# Altium schematic symbol library MCU_Module.SchLib: 64 symbols (part 1 of 2)
Pins are listed as number, name and electrical type; pins without a type are passive.

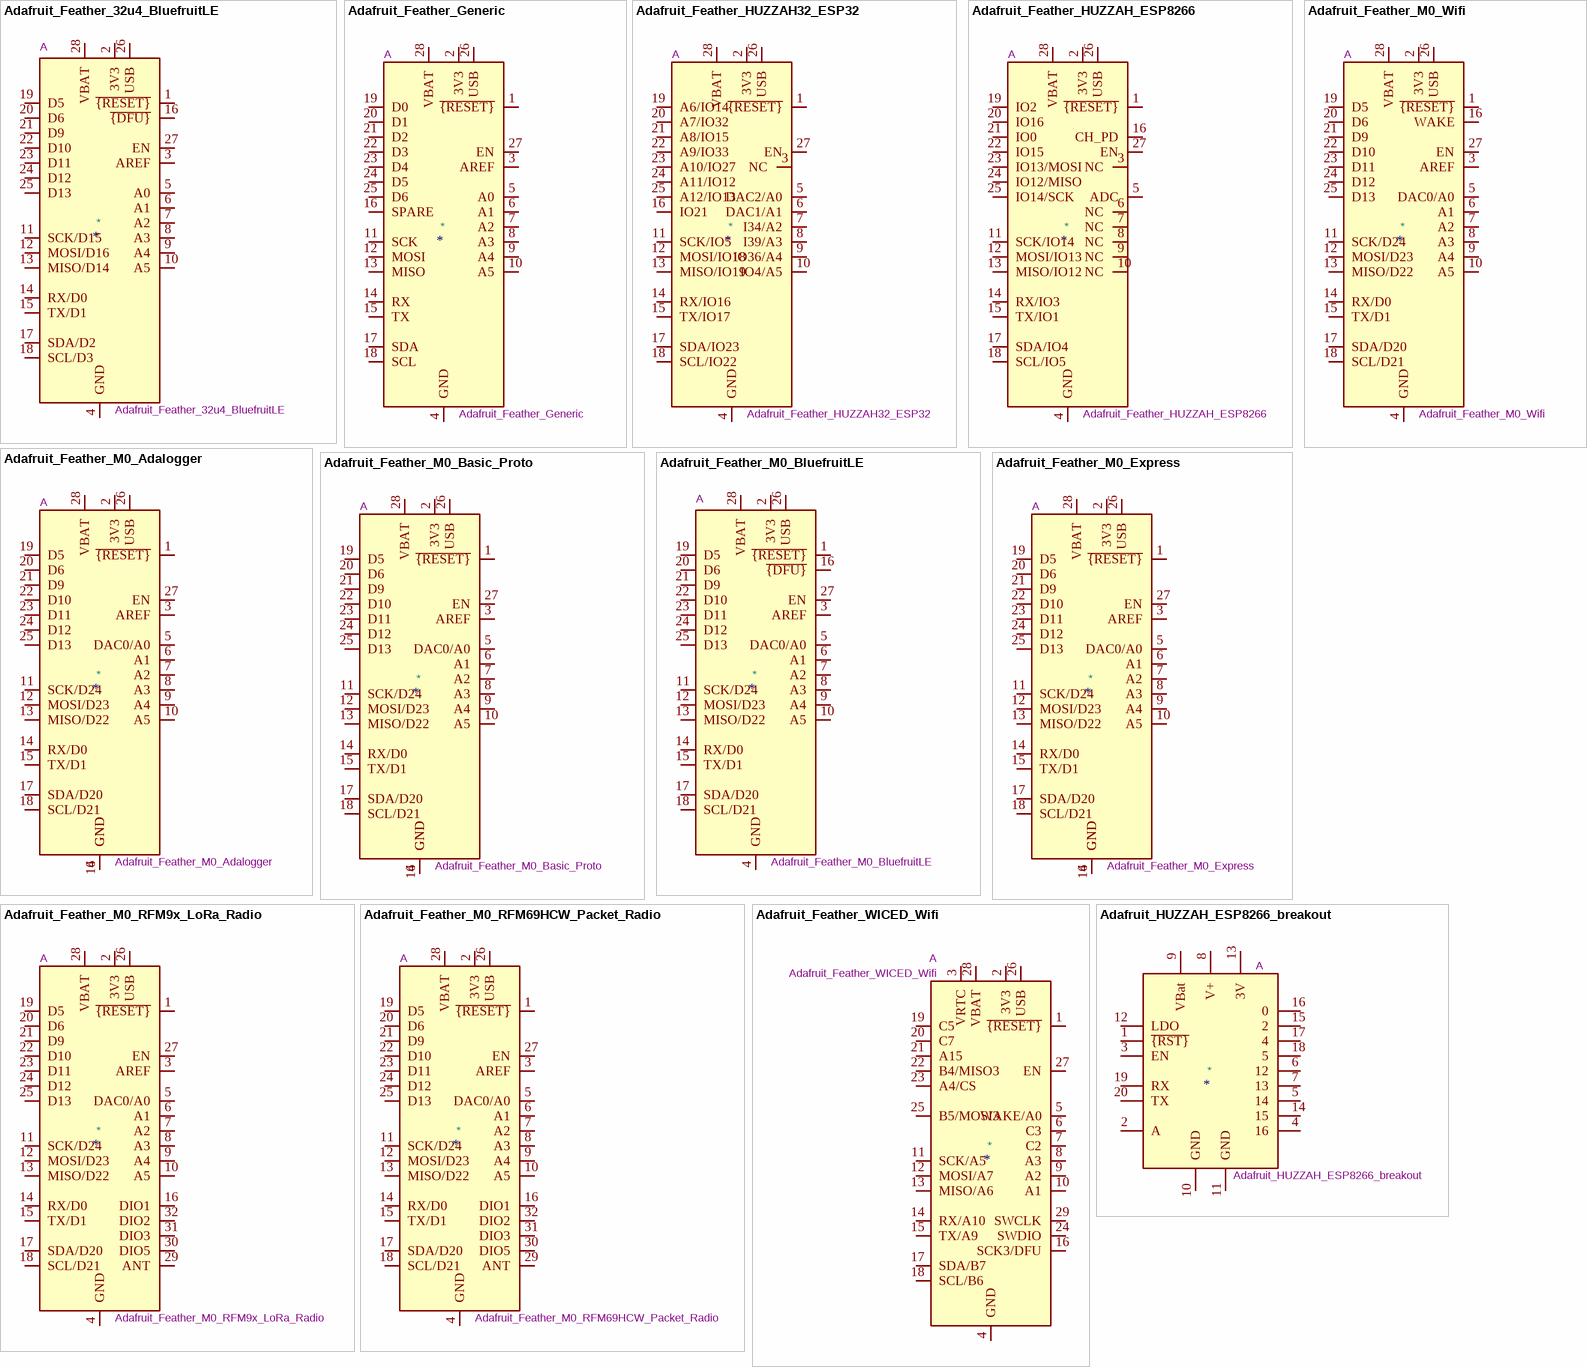
[diagram p0: symbols Adafruit_Feather_32u4_BluefruitLE to Adafruit_HUZZAH_ESP8266_breakout]

## Adafruit_Feather_32u4_BluefruitLE
designator *  value Adafruit_Feather_32u4_BluefruitLE  Reference: A
Microcontroller module with ATmega32u4 MCU and bluetooth; ki_keywords: Adafruit feather microcontroller module USB AVR ATmega32U4  Bluetooth BLE; ki_fp_filters: Adafruit*Feather*; Footprint: Module:Adafruit_Feather; Datasheet: https://cdn-learn.adafruit.com/downloads/pdf/adafruit-feather-32u4-bluefruit-le.pdf; Description_: Microcontroller module with ATmega32u4 MCU and bluetooth
pins: 1 ~{{RESET}}, 2 3V3, 3 AREF, 4 GND, 5 A0, 6 A1, 7 A2, 8 A3, 9 A4, 10 A5, 11 SCK/D15, 12 MOSI/D16, 13 MISO/D14, 14 RX/D0, 15 TX/D1, 16 ~{{DFU}}, 17 SDA/D2, 18 SCL/D3, 19 D5, 20 D6, 21 D9, 22 D10, 23 D11, 24 D12, 25 D13, 26 USB, 27 EN, 28 VBAT

## Adafruit_Feather_Generic
designator *  value Adafruit_Feather_Generic  Reference: A
Microcontroller module in various flavor, generic symbol; ki_keywords: Adafruit feather microcontroller module; ki_fp_filters: Adafruit*Feather*; Footprint: Module:Adafruit_Feather; Datasheet: https://cdn-learn.adafruit.com/downloads/pdf/adafruit-feather.pdf; Description_: Microcontroller module in various flavor, generic symbol
pins: 1 ~{{RESET}}, 2 3V3, 3 AREF, 4 GND, 5 A0, 6 A1, 7 A2, 8 A3, 9 A4, 10 A5, 11 SCK, 12 MOSI, 13 MISO, 14 RX, 15 TX, 16 SPARE, 17 SDA, 18 SCL, 19 D0, 20 D1, 21 D2, 22 D3, 23 D4, 24 D5, 25 D6, 26 USB, 27 EN, 28 VBAT

## Adafruit_Feather_HUZZAH32_ESP32
designator *  value Adafruit_Feather_HUZZAH32_ESP32  Reference: A
Microcontroller module with ESP32 MCU; ki_keywords: Adafruit feather microcontroller module USB; ki_fp_filters: Adafruit*Feather*; Footprint: Module:Adafruit_Feather; Datasheet: https://cdn-learn.adafruit.com/downloads/pdf/adafruit-huzzah32-esp32-feather.pdf; Description_: Microcontroller module with ESP32 MCU
pins: 1 ~{{RESET}}, 2 3V3, 3 NC, 4 GND, 5 DAC2/A0, 6 DAC1/A1, 7 I34/A2, 8 I39/A3, 9 IO36/A4, 10 IO4/A5, 11 SCK/IO5, 12 MOSI/IO18, 13 MISO/IO19, 14 RX/IO16, 15 TX/IO17, 16 IO21, 17 SDA/IO23, 18 SCL/IO22, 19 A6/IO14, 20 A7/IO32, 21 A8/IO15, 22 A9/IO33, 23 A10/IO27, 24 A11/IO12, 25 A12/IO13, 26 USB, 27 EN, 28 VBAT

## Adafruit_Feather_HUZZAH_ESP8266
designator *  value Adafruit_Feather_HUZZAH_ESP8266  Reference: A
Microcontroller module with ESP8266 MCU; ki_keywords: Adafruit feather microcontroller module USB; ki_fp_filters: Adafruit*Feather*; Footprint: Module:Adafruit_Feather; Datasheet: https://cdn-learn.adafruit.com/downloads/pdf/adafruit-feather-huzzah-esp8266.pdf; Description_: Microcontroller module with ESP8266 MCU
pins: 1 ~{{RESET}}, 2 3V3, 3 NC, 4 GND, 5 ADC, 6 NC, 7 NC, 8 NC, 9 NC, 10 NC, 11 SCK/IO14, 12 MOSI/IO13, 13 MISO/IO12, 14 RX/IO3, 15 TX/IO1, 16 CH_PD, 17 SDA/IO4, 18 SCL/IO5, 19 IO2, 20 IO16, 21 IO0, 22 IO15, 23 IO13/MOSI, 24 IO12/MISO, 25 IO14/SCK, 26 USB, 27 EN, 28 VBAT

## Adafruit_Feather_M0_Adalogger
designator *  value Adafruit_Feather_M0_Adalogger  Reference: A
Microcontroller module with SAMD21 Cortex-M0 MCU and SD card reader; ki_keywords: Adafruit feather microcontroller module USB SD; ki_fp_filters: Adafruit*Feather*; Footprint: Module:Adafruit_Feather; Datasheet: https://cdn-learn.adafruit.com/downloads/pdf/adafruit-feather-m0-adalogger.pdf; Description_: Microcontroller module with SAMD21 Cortex-M0 MCU and SD card reader
pins: 1 ~{{RESET}}, 2 3V3, 3 AREF, 4 GND, 5 DAC0/A0, 6 A1, 7 A2, 8 A3, 9 A4, 10 A5, 11 SCK/D24, 12 MOSI/D23, 13 MISO/D22, 14 RX/D0, 15 TX/D1, 16 GND, 17 SDA/D20, 18 SCL/D21, 19 D5, 20 D6, 21 D9, 22 D10, 23 D11, 24 D12, 25 D13, 26 USB, 27 EN, 28 VBAT

## Adafruit_Feather_M0_Basic_Proto
designator *  value Adafruit_Feather_M0_Basic_Proto  Reference: A
Microcontroller module with SAMD21 Cortex-M0 MCU; ki_keywords: Adafruit feather microcontroller module USB M0 SAMD21; ki_fp_filters: Adafruit*Feather*; Footprint: Module:Adafruit_Feather; Datasheet: https://cdn-learn.adafruit.com/downloads/pdf/adafruit-feather-m0-basic-proto.pdf; Description_: Microcontroller module with SAMD21 Cortex-M0 MCU
pins: 1 ~{{RESET}}, 2 3V3, 3 AREF, 4 GND, 5 DAC0/A0, 6 A1, 7 A2, 8 A3, 9 A4, 10 A5, 11 SCK/D24, 12 MOSI/D23, 13 MISO/D22, 14 RX/D0, 15 TX/D1, 16 GND, 17 SDA/D20, 18 SCL/D21, 19 D5, 20 D6, 21 D9, 22 D10, 23 D11, 24 D12, 25 D13, 26 USB, 27 EN, 28 VBAT

## Adafruit_Feather_M0_BluefruitLE
designator *  value Adafruit_Feather_M0_BluefruitLE  Reference: A
Microcontroller module with SAMD21 Cortex-M0 MCU and bluetooth; ki_keywords: Adafruit feather microcontroller module USB M0 SAMD21 Bluetooth BLE; ki_fp_filters: Adafruit*Feather*; Footprint: Module:Adafruit_Feather; Datasheet: https://cdn-learn.adafruit.com/downloads/pdf/adafruit-feather-m0-bluefruit-le.pdf; Description_: Microcontroller module with SAMD21 Cortex-M0 MCU and bluetooth
pins: 1 ~{{RESET}}, 2 3V3, 3 AREF, 4 GND, 5 DAC0/A0, 6 A1, 7 A2, 8 A3, 9 A4, 10 A5, 11 SCK/D24, 12 MOSI/D23, 13 MISO/D22, 14 RX/D0, 15 TX/D1, 16 ~{{DFU}}, 17 SDA/D20, 18 SCL/D21, 19 D5, 20 D6, 21 D9, 22 D10, 23 D11, 24 D12, 25 D13, 26 USB, 27 EN, 28 VBAT

## Adafruit_Feather_M0_Express
designator *  value Adafruit_Feather_M0_Express  Reference: A
Microcontroller module with SAMD21 Cortex-M0 MCU and SPI Flash; ki_keywords: Adafruit feather microcontroller module USB SPI Flash CircuitPython; ki_fp_filters: Adafruit*Feather*; Footprint: Module:Adafruit_Feather; Datasheet: https://cdn-learn.adafruit.com/downloads/pdf/adafruit-feather-m0-express-designed-for-circuit-python-circuitpython.pdf; Description_: Microcontroller module with SAMD21 Cortex-M0 MCU and SPI Flash
pins: 1 ~{{RESET}}, 2 3V3, 3 AREF, 4 GND, 5 DAC0/A0, 6 A1, 7 A2, 8 A3, 9 A4, 10 A5, 11 SCK/D24, 12 MOSI/D23, 13 MISO/D22, 14 RX/D0, 15 TX/D1, 16 GND, 17 SDA/D20, 18 SCL/D21, 19 D5, 20 D6, 21 D9, 22 D10, 23 D11, 24 D12, 25 D13, 26 USB, 27 EN, 28 VBAT

## Adafruit_Feather_M0_RFM9x_LoRa_Radio
designator *  value Adafruit_Feather_M0_RFM9x_LoRa_Radio  Reference: A
Microcontroller module with SAMD21 Cortex-M0 MCU and RFM9x Radio; ki_keywords: Adafruit feather microcontroller module USB M0 SAMD21 LoRa Radio; ki_fp_filters: Adafruit*Feather*; Footprint: Module:Adafruit_Feather_M0_RFM; Datasheet: https://cdn-learn.adafruit.com/downloads/pdf/adafruit-feather-m0-radio-with-lora-radio-module.pdf; Description_: Microcontroller module with SAMD21 Cortex-M0 MCU and RFM9x Radio
pins: 1 ~{{RESET}}, 2 3V3, 3 AREF, 4 GND, 5 DAC0/A0, 6 A1, 7 A2, 8 A3, 9 A4, 10 A5, 11 SCK/D24, 12 MOSI/D23, 13 MISO/D22, 14 RX/D0, 15 TX/D1, 16 DIO1, 17 SDA/D20, 18 SCL/D21, 19 D5, 20 D6, 21 D9, 22 D10, 23 D11, 24 D12, 25 D13, 26 USB, 27 EN, 28 VBAT, 29 ANT, 30 DIO5, 31 DIO3, 32 DIO2

## Adafruit_Feather_M0_RFM69HCW_Packet_Radio
designator *  value Adafruit_Feather_M0_RFM69HCW_Packet_Radio  Reference: A
Microcontroller module with SAMD21 Cortex-M0 MCU and RFM69HCW Radio; ki_keywords: Adafruit feather microcontroller module USB M0 SAMD21 Radio; ki_fp_filters: Adafruit*Feather*; Footprint: Module:Adafruit_Feather_M0_RFM; Datasheet: https://cdn-learn.adafruit.com/downloads/pdf/adafruit-feather-m0-radio-with-rfm69-packet-radio.pdf; Description_: Microcontroller module with SAMD21 Cortex-M0 MCU and RFM69HCW Radio
pins: 1 ~{{RESET}}, 2 3V3, 3 AREF, 4 GND, 5 DAC0/A0, 6 A1, 7 A2, 8 A3, 9 A4, 10 A5, 11 SCK/D24, 12 MOSI/D23, 13 MISO/D22, 14 RX/D0, 15 TX/D1, 16 DIO1, 17 SDA/D20, 18 SCL/D21, 19 D5, 20 D6, 21 D9, 22 D10, 23 D11, 24 D12, 25 D13, 26 USB, 27 EN, 28 VBAT, 29 ANT, 30 DIO5, 31 DIO3, 32 DIO2

## Adafruit_Feather_M0_Wifi
designator *  value Adafruit_Feather_M0_Wifi  Reference: A
Microcontroller module with SAMD21 Cortex-M0 MCU and ATWINC1500 Wifi; ki_keywords: Adafruit feather microcontroller module USB M0 SAMD21 Wifi ATWINC1500; ki_fp_filters: Adafruit*Feather*; Footprint: Module:Adafruit_Feather_M0_Wifi; Datasheet: https://cdn-learn.adafruit.com/downloads/pdf/adafruit-feather-m0-wifi-atwinc1500.pdf; Description_: Microcontroller module with SAMD21 Cortex-M0 MCU and ATWINC1500 Wifi
pins: 1 ~{{RESET}}, 2 3V3, 3 AREF, 4 GND, 5 DAC0/A0, 6 A1, 7 A2, 8 A3, 9 A4, 10 A5, 11 SCK/D24, 12 MOSI/D23, 13 MISO/D22, 14 RX/D0, 15 TX/D1, 16 WAKE, 17 SDA/D20, 18 SCL/D21, 19 D5, 20 D6, 21 D9, 22 D10, 23 D11, 24 D12, 25 D13, 26 USB, 27 EN, 28 VBAT

## Adafruit_Feather_WICED_Wifi
designator *  value Adafruit_Feather_WICED_Wifi  Reference: A
Microcontroller module with STM32F205 Cortex-M3 MCU and BCM43362 Wifi; ki_keywords: Adafruit feather microcontroller module USB M3 STM32F205 Wifi; ki_fp_filters: Adafruit*Feather*; Footprint: Module:Adafruit_Feather_WICED; Datasheet: https://cdn-learn.adafruit.com/downloads/pdf/introducing-the-adafruit-wiced-feather-wifi.pdf; Description_: Microcontroller module with STM32F205 Cortex-M3 MCU and BCM43362 Wifi
pins: 1 ~{{RESET}}, 2 3V3, 3 VRTC, 4 GND, 5 WAKE/A0, 6 C3, 7 C2, 8 A3, 9 A2, 10 A1, 11 SCK/A5, 12 MOSI/A7, 13 MISO/A6, 14 RX/A10, 15 TX/A9, 16 SCK3/DFU, 17 SDA/B7, 18 SCL/B6, 19 C5, 20 C7, 21 A15, 22 B4/MISO3, 23 A4/CS, 24 SWDIO, 25 B5/MOSI3, 26 USB, 27 EN, 28 VBAT, 29 SWCLK

## Adafruit_HUZZAH_ESP8266_breakout
designator *  value Adafruit_HUZZAH_ESP8266_breakout  Reference: A
32-bit microcontroller module with WiFi; ki_keywords: ESP8266 WiFi microcontroller; ki_fp_filters: Adafruit*HUZZAH*ESP8266*breakout* Adafruit*HUZZAH*ESP8266*breakout*WithMountingHoles*; Datasheet: https://www.adafruit.com/product/2471; Description_: 32-bit microcontroller module with WiFi
pins: 1 ~{{RST}}, 2 A, 3 EN, 4 16, 5 14, 6 12, 7 13, 8 V+, 9 VBat, 10 GND, 11 GND, 12 LDO, 13 3V, 14 15, 15 2, 16 0, 17 4, 18 5, 19 RX, 20 TX

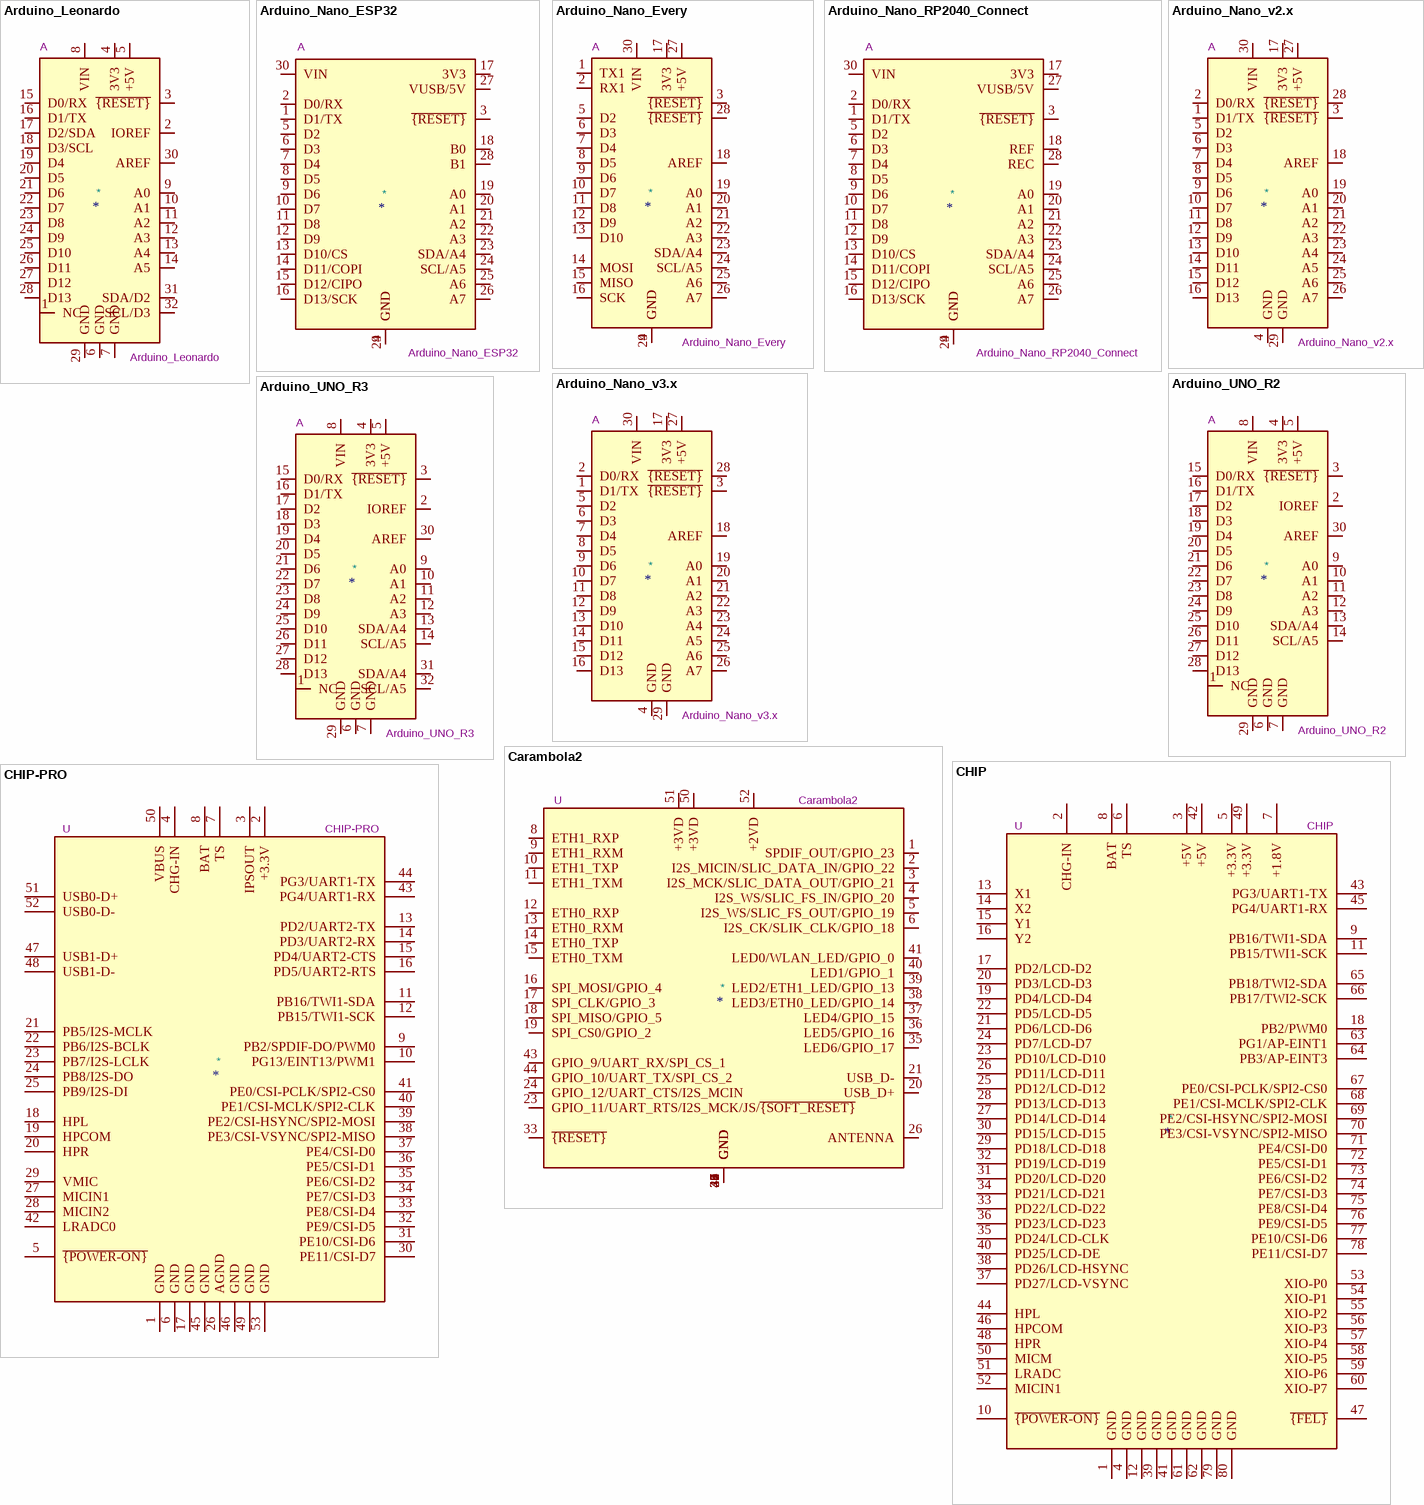
[diagram p1: symbols Arduino_Leonardo to CHIP-PRO]

## Arduino_Leonardo
designator *  value Arduino_Leonardo  Reference: A
Arduino LEONARDO Microcontroller Module; ki_keywords: Arduino LEONARDO Microcontroller Module Atmel AVR USB; ki_fp_filters: Arduino*UNO*R3*; Footprint: Module:Arduino_UNO_R3; Datasheet: https://www.arduino.cc/en/Main/ArduinoBoardLeonardo; Description_: Arduino LEONARDO Microcontroller Module
pins: 1 NC, 2 IOREF, 3 ~{{RESET}}, 4 3V3, 5 +5V, 6 GND, 7 GND, 8 VIN, 9 A0, 10 A1, 11 A2, 12 A3, 13 A4, 14 A5, 15 D0/RX, 16 D1/TX, 17 D2/SDA, 18 D3/SCL, 19 D4, 20 D5, 21 D6, 22 D7, 23 D8, 24 D9, 25 D10, 26 D11, 27 D12, 28 D13, 29 GND, 30 AREF, 31 SDA/D2, 32 SCL/D3

## Arduino_Nano_ESP32
designator *  value Arduino_Nano_ESP32  Reference: A
Arduino Nano board based on the ESP32-S3 with a dual-core 240 MHz processor, 384 kB ROM, 512 kB SRAM. Operates at 3.3V, with 5V USB-C® input and 6-21V VIN. Features Wi-Fi®, Bluetooth® LE, digital and analog pins, and supports SPI, I2C, UART, I2S, and CAN.; ki_keywords: Arduino Nano ESP32; ki_fp_filters: Arduino*Nano*; Footprint: Module:Arduino_Nano; Datasheet: https://docs.arduino.cc/resources/datasheets/ABX00083-datasheet.pdf; Description_: Arduino Nano board based on the ESP32-S3 with a dual-core 240 MHz processor, 384 kB ROM, 512 kB SRAM. Operates at 3.3V, with 5V USB-C® input and 6-21V VIN. Features Wi-Fi®, Bluetooth® LE, digital and analog pins, and supports SPI, I2C, UART, I2S, and CAN.
pins: 1 D1/TX, 2 D0/RX, 3 ~{{RESET}}, 4 GND, 5 D2, 6 D3, 7 D4, 8 D5, 9 D6, 10 D7, 11 D8, 12 D9, 13 D10/CS, 14 D11/COPI, 15 D12/CIPO, 16 D13/SCK, 17 3V3, 18 B0, 19 A0, 20 A1, 21 A2, 22 A3, 23 SDA/A4, 24 SCL/A5, 25 A6, 26 A7, 27 VUSB/5V, 28 B1, 29 GND, 30 VIN

## Arduino_Nano_Every
designator *  value Arduino_Nano_Every  Reference: A
Arduino Nano Every; ki_keywords: Arduino nano microcontroller module USB UPDI AATMega4809 AVR; ki_fp_filters: Arduino*Nano*; Footprint: Module:Arduino_Nano; Datasheet: https://content.arduino.cc/assets/NANOEveryV3.0_sch.pdf; Description_: Arduino Nano Every
pins: 1 TX1, 2 RX1, 3 ~{{RESET}}, 4 GND, 5 D2, 6 D3, 7 D4, 8 D5, 9 D6, 10 D7, 11 D8, 12 D9, 13 D10, 14 MOSI, 15 MISO, 16 SCK, 17 3V3, 18 AREF, 19 A0, 20 A1, 21 A2, 22 A3, 23 SDA/A4, 24 SCL/A5, 25 A6, 26 A7, 27 +5V, 28 ~{{RESET}}, 29 GND, 30 VIN

## Arduino_Nano_RP2040_Connect
designator *  value Arduino_Nano_RP2040_Connect  Reference: A
Arduino Nano board based on the RP2040 microcontroller with a dual-core 133 MHz ARM Cortex-M0+ processor, 264 kB SRAM, and up to 16 MB flash memory. Operates at 3.3V, with 5V Micro USB input and 4-20V VIN. Features Wi-Fi®, Bluetooth® LE, digital and analog pins, and supports SPI, I2C, UART, and PIO. Includes a 6-axis IMU, RGB LED, microphone, and cryptographic chip for secure communication.; ki_keywords: Raspberry Pi MCU; ki_fp_filters: Arduino*Nano*; Footprint: Module:Arduino_Nano; Datasheet: https://docs.arduino.cc/resources/datasheets/ABX00053-datasheet.pdf; Description_: Arduino Nano board based on the RP2040 microcontroller with a dual-core 133 MHz ARM Cortex-M0+ processor, 264 kB SRAM, and up to 16 MB flash memory. Operates at 3.3V, with 5V Micro USB input and 4-20V VIN. Features Wi-Fi®, Bluetooth® LE, digital and analog pins, and supports SPI, I2C, UART, and PIO. Includes a 6-axis IMU, RGB LED, microphone, and cryptographic chip for secure communication.
pins: 1 D1/TX, 2 D0/RX, 3 ~{{RESET}}, 4 GND, 5 D2, 6 D3, 7 D4, 8 D5, 9 D6, 10 D7, 11 D8, 12 D9, 13 D10/CS, 14 D11/COPI, 15 D12/CIPO, 16 D13/SCK, 17 3V3, 18 REF, 19 A0, 20 A1, 21 A2, 22 A3, 23 SDA/A4, 24 SCL/A5, 25 A6, 26 A7, 27 VUSB/5V, 28 REC, 29 GND, 30 VIN

## Arduino_Nano_v2.x
designator *  value Arduino_Nano_v2.x  Reference: A
Arduino Nano v2.x; ki_keywords: Arduino nano microcontroller module USB; ki_fp_filters: Arduino*Nano*; Footprint: Module:Arduino_Nano; Datasheet: https://www.arduino.cc/en/uploads/Main/ArduinoNanoManual23.pdf; Description_: Arduino Nano v2.x
pins: 1 D1/TX, 2 D0/RX, 3 ~{{RESET}}, 4 GND, 5 D2, 6 D3, 7 D4, 8 D5, 9 D6, 10 D7, 11 D8, 12 D9, 13 D10, 14 D11, 15 D12, 16 D13, 17 3V3, 18 AREF, 19 A0, 20 A1, 21 A2, 22 A3, 23 A4, 24 A5, 25 A6, 26 A7, 27 +5V, 28 ~{{RESET}}, 29 GND, 30 VIN

## Arduino_Nano_v3.x
designator *  value Arduino_Nano_v3.x  Reference: A
Arduino Nano v3.x; ki_keywords: Arduino nano microcontroller module USB; ki_fp_filters: Arduino*Nano*; Footprint: Module:Arduino_Nano; Datasheet: http://www.mouser.com/pdfdocs/Gravitech_Arduino_Nano3_0.pdf; Description_: Arduino Nano v3.x
pins: 1 D1/TX, 2 D0/RX, 3 ~{{RESET}}, 4 GND, 5 D2, 6 D3, 7 D4, 8 D5, 9 D6, 10 D7, 11 D8, 12 D9, 13 D10, 14 D11, 15 D12, 16 D13, 17 3V3, 18 AREF, 19 A0, 20 A1, 21 A2, 22 A3, 23 A4, 24 A5, 25 A6, 26 A7, 27 +5V, 28 ~{{RESET}}, 29 GND, 30 VIN

## Arduino_UNO_R2
designator *  value Arduino_UNO_R2  Reference: A
Arduino UNO Microcontroller Module, release 2; ki_keywords: Arduino UNO R3 Microcontroller Module Atmel AVR USB; ki_fp_filters: Arduino*UNO*R2*; Footprint: Module:Arduino_UNO_R2; Datasheet: https://www.arduino.cc/en/Main/arduinoBoardUno; Description_: Arduino UNO Microcontroller Module, release 2
pins: 1 NC, 2 IOREF, 3 ~{{RESET}}, 4 3V3, 5 +5V, 6 GND, 7 GND, 8 VIN, 9 A0, 10 A1, 11 A2, 12 A3, 13 SDA/A4, 14 SCL/A5, 15 D0/RX, 16 D1/TX, 17 D2, 18 D3, 19 D4, 20 D5, 21 D6, 22 D7, 23 D8, 24 D9, 25 D10, 26 D11, 27 D12, 28 D13, 29 GND, 30 AREF

## Arduino_UNO_R3
designator *  value Arduino_UNO_R3  Reference: A
Arduino UNO Microcontroller Module, release 3; ki_keywords: Arduino UNO R3 Microcontroller Module Atmel AVR USB; ki_fp_filters: Arduino*UNO*R3*; Footprint: Module:Arduino_UNO_R3; Datasheet: https://www.arduino.cc/en/Main/arduinoBoardUno; Description_: Arduino UNO Microcontroller Module, release 3
pins: 1 NC, 2 IOREF, 3 ~{{RESET}}, 4 3V3, 5 +5V, 6 GND, 7 GND, 8 VIN, 9 A0, 10 A1, 11 A2, 12 A3, 13 SDA/A4, 14 SCL/A5, 15 D0/RX, 16 D1/TX, 17 D2, 18 D3, 19 D4, 20 D5, 21 D6, 22 D7, 23 D8, 24 D9, 25 D10, 26 D11, 27 D12, 28 D13, 29 GND, 30 AREF, 31 SDA/A4, 32 SCL/A5

## Carambola2
designator *  value Carambola2  Reference: U
Qualcomm AR9331, 16MB Flash, 64MB RAM, USB, Serial, Ethernet, GPIO, OpenWRT, industrial SoM computer; ki_keywords: carambola, 8devices, openwrt, board, wlan; ki_fp_filters: Carambola2*; Footprint: Module:Carambola2; Datasheet: https://www.8devices.com/media/products/carambola2/downloads/carambola2-datasheet.pdf; Description_: Qualcomm AR9331, 16MB Flash, 64MB RAM, USB, Serial, Ethernet, GPIO, OpenWRT, industrial SoM computer
pins: 1 SPDIF_OUT/GPIO_23, 2 I2S_MICIN/SLIC_DATA_IN/GPIO_22, 3 I2S_MCK/SLIC_DATA_OUT/GPIO_21, 4 I2S_WS/SLIC_FS_IN/GPIO_20, 5 I2S_WS/SLIC_FS_OUT/GPIO_19, 6 I2S_CK/SLIK_CLK/GPIO_18, 7 GND, 8 ETH1_RXP, 9 ETH1_RXM, 10 ETH1_TXP, 11 ETH1_TXM, 12 ETH0_RXP, 13 ETH0_RXM, 14 ETH0_TXP, 15 ETH0_TXM, 16 SPI_MOSI/GPIO_4, 17 SPI_CLK/GPIO_3, 18 SPI_MISO/GPIO_5, 19 SPI_CS0/GPIO_2, 20 USB_D+, 21 USB_D-, 22 GND, 23 GPIO_11/UART_RTS/I2S_MCK/JS/~{{SOFT_RESET}}, 24 GPIO_12/UART_CTS/I2S_MCIN, 25 GND, 26 ANTENNA, 27 GND, 28 GND, 29 GND, 30 GND, 31 GND, 32 GND, 33 ~{{RESET}}, 34 GND, 35 LED6/GPIO_17, 36 LED5/GPIO_16, 37 LED4/GPIO_15, 38 LED3/ETH0_LED/GPIO_14, 39 LED2/ETH1_LED/GPIO_13, 40 LED1/GPIO_1, 41 LED0/WLAN_LED/GPIO_0, 42 GND, 43 GPIO_9/UART_RX/SPI_CS_1, 44 GPIO_10/UART_TX/SPI_CS_2, 45 GND, 46 GND, 47 GND, 48 GND, 49 GND, 50 +3VD, 51 +3VD, 52 +2VD

## CHIP
designator *  value CHIP  Reference: U
NextThingCo C.H.I.P. Module; ki_keywords: nextthingco chip module; ki_fp_filters: MODULE*NEXTTHINGCO*CHIP*; Footprint: Module:MODULE_NEXTTHINGCO_CHIP; Datasheet: https://github.com/NextThingCo/CHIP-Hardware/tree/master/CHIP%5Bv1_0%5D; Description_: NextThingCo C.H.I.P. Module
pins: 1 GND, 2 CHG-IN, 3 +5V, 4 GND, 5 +3.3V, 6 TS, 7 +1.8V, 8 BAT, 9 PB16/TWI1-SDA, 10 ~{{POWER-ON}}, 11 PB15/TWI1-SCK, 12 GND, 13 X1, 14 X2, 15 Y1, 16 Y2, 17 PD2/LCD-D2, 18 PB2/PWM0, 19 PD4/LCD-D4, 20 PD3/LCD-D3, 21 PD6/LCD-D6, 22 PD5/LCD-D5, 23 PD10/LCD-D10, 24 PD7/LCD-D7, 25 PD12/LCD-D12, 26 PD11/LCD-D11, 27 PD14/LCD-D14, 28 PD13/LCD-D13, 29 PD18/LCD-D18, 30 PD15/LCD-D15, 31 PD20/LCD-D20, 32 PD19/LCD-D19, 33 PD22/LCD-D22, 34 PD21/LCD-D21, 35 PD24/LCD-CLK, 36 PD23/LCD-D23, 37 PD27/LCD-VSYNC, 38 PD26/LCD-HSYNC, 39 GND, 40 PD25/LCD-DE, 41 GND, 42 +5V, 43 PG3/UART1-TX, 44 HPL, 45 PG4/UART1-RX, 46 HPCOM, 47 ~{{FEL}}, 48 HPR, 49 +3.3V, 50 MICM, 51 LRADC, 52 MICIN1, 53 XIO-P0, 54 XIO-P1, 55 XIO-P2, 56 XIO-P3, 57 XIO-P4, 58 XIO-P5, 59 XIO-P6, 60 XIO-P7, 61 GND, 62 GND, 63 PG1/AP-EINT1, 64 PB3/AP-EINT3, 65 PB18/TWI2-SDA, 66 PB17/TWI2-SCK, 67 PE0/CSI-PCLK/SPI2-CS0, 68 PE1/CSI-MCLK/SPI2-CLK, 69 PE2/CSI-HSYNC/SPI2-MOSI, 70 PE3/CSI-VSYNC/SPI2-MISO, 71 PE4/CSI-D0, 72 PE5/CSI-D1, 73 PE6/CSI-D2, 74 PE7/CSI-D3, 75 PE8/CSI-D4, 76 PE9/CSI-D5, 77 PE10/CSI-D6, 78 PE11/CSI-D7, 79 GND, 80 GND

## CHIP-PRO
designator *  value CHIP-PRO  Reference: U
NextThingCo C.H.I.P. Pro Module; ki_keywords: nextthingco chip pro module; ki_fp_filters: MODULE*NEXTTHINGCO*CHIPPRO*; Footprint: Module:MODULE_NEXTTHINGCO_CHIPPRO; Datasheet: https://github.com/NextThingCo/CHIP_Pro-Hardware/blob/master/Datasheets/CHIP_PRO_Datasheet_v1.0.pdf; Description_: NextThingCo C.H.I.P. Pro Module
pins: 1 GND, 2 +3.3V, 3 IPSOUT, 4 CHG-IN, 5 ~{{POWER-ON}}, 6 GND, 7 TS, 8 BAT, 9 PB2/SPDIF-DO/PWM0, 10 PG13/EINT13/PWM1, 11 PB16/TWI1-SDA, 12 PB15/TWI1-SCK, 13 PD2/UART2-TX, 14 PD3/UART2-RX, 15 PD4/UART2-CTS, 16 PD5/UART2-RTS, 17 GND, 18 HPL, 19 HPCOM, 20 HPR, 21 PB5/I2S-MCLK, 22 PB6/I2S-BCLK, 23 PB7/I2S-LCLK, 24 PB8/I2S-DO, 25 PB9/I2S-DI, 26 AGND, 27 MICIN1, 28 MICIN2, 29 VMIC, 30 PE11/CSI-D7, 31 PE10/CSI-D6, 32 PE9/CSI-D5, 33 PE8/CSI-D4, 34 PE7/CSI-D3, 35 PE6/CSI-D2, 36 PE5/CSI-D1, 37 PE4/CSI-D0, 38 PE3/CSI-VSYNC/SPI2-MISO, 39 PE2/CSI-HSYNC/SPI2-MOSI, 40 PE1/CSI-MCLK/SPI2-CLK, 41 PE0/CSI-PCLK/SPI2-CS0, 42 LRADC0, 43 PG4/UART1-RX, 44 PG3/UART1-TX, 45 GND, 46 GND, 47 USB1-D+, 48 USB1-D-, 49 GND, 50 VBUS, 51 USB0-D+, 52 USB0-D-, 53 GND

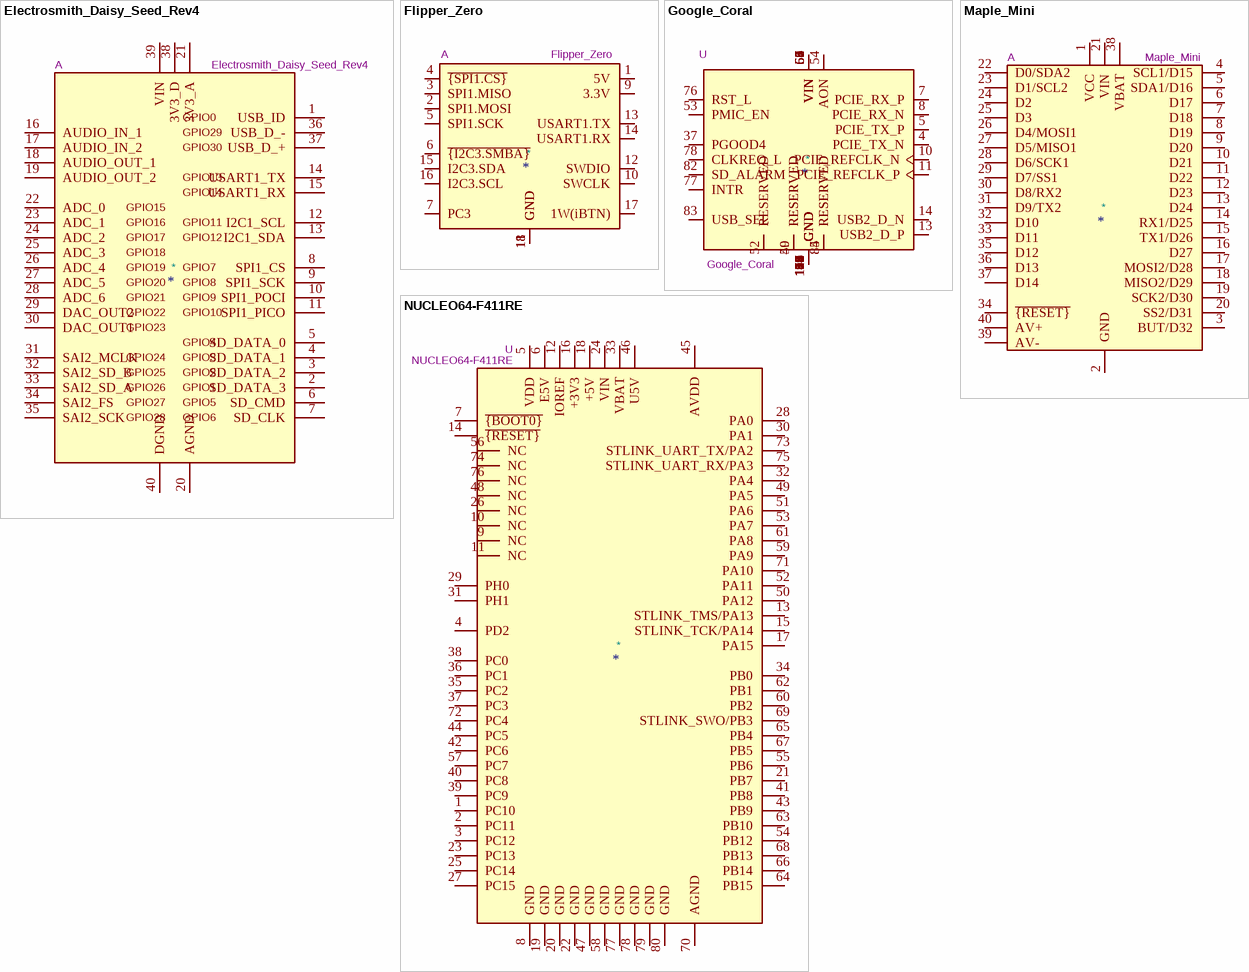
[diagram p2: symbols Electrosmith_Daisy_Seed_Rev4 to NUCLEO64-F411RE]

## Electrosmith_Daisy_Seed_Rev4
designator *  value Electrosmith_Daisy_Seed_Rev4  Reference: A
Daisy is an embedded platform for music.; ki_keywords: Electrosmith Daisy Seed Microcontroller Module ARM Cortex-M7; ki_fp_filters: Electrosmith*Daisy*Seed*; Footprint: Module:Electrosmith_Daisy_Seed; Datasheet: https://static1.squarespace.com/static/58d03fdc1b10e3bf442567b8/t/6227e6236f02fb68d1577146/1646781988478/Daisy_Seed_datasheet_v1.0.3.pdf; Description_: Daisy is an embedded platform for music.
pins: 1 USB_ID, 2 SD_DATA_3, 3 SD_DATA_2, 4 SD_DATA_1, 5 SD_DATA_0, 6 SD_CMD, 7 SD_CLK, 8 SPI1_CS, 9 SPI1_SCK, 10 SPI1_POCI, 11 SPI1_PICO, 12 I2C1_SCL, 13 I2C1_SDA, 14 USART1_TX, 15 USART1_RX, 16 AUDIO_IN_1, 17 AUDIO_IN_2, 18 AUDIO_OUT_1, 19 AUDIO_OUT_2, 20 AGND, 21 3V3_A, 22 ADC_0, 23 ADC_1, 24 ADC_2, 25 ADC_3, 26 ADC_4, 27 ADC_5, 28 ADC_6, 29 DAC_OUT2, 30 DAC_OUT1, 31 SAI2_MCLK, 32 SAI2_SD_B, 33 SAI2_SD_A, 34 SAI2_FS, 35 SAI2_SCK, 36 USB_D_-, 37 USB_D_+, 38 3V3_D, 39 VIN, 40 DGND
text: GPIO0; GPIO29; GPIO30; GPIO13; GPIO14; GPIO15; GPIO16; GPIO11; GPIO17; GPIO12; GPIO18; GPIO19; GPIO7; GPIO20; GPIO8; GPIO21; GPIO9; GPIO22; GPIO10; GPIO23; GPIO4; GPIO24; GPIO3; GPIO25; GPIO2; GPIO26; GPIO1; GPIO27; GPIO5; GPIO28; GPIO6

## Flipper_Zero
designator *  value Flipper_Zero  Reference: A
Portable multi-tool for pentesters and geeks in a toy-like body, 13 GPIO, USB to UART/SPI/I2C bridge/converter, Serial Wire Debug interface (SWD), 2.54 mm pin header connector; ki_keywords: Microcontroller Module STM32 NFC RFID IR RF Bluetooth-LE-5.4 1-Wire ADC SMBus; ki_fp_filters: *Flipper?Zero*; Footprint: Module:Flipper_Zero_Angled; Datasheet: https://docs.flipper.net/development; Description_: Portable multi-tool for pentesters and geeks in a toy-like body, 13 GPIO, USB to UART/SPI/I2C bridge/converter, Serial Wire Debug interface (SWD), 2.54 mm pin header connector
pins: 1 5V, 2 SPI1.MOSI, 3 SPI1.MISO, 4 ~{{SPI1.CS}}, 5 SPI1.SCK, 6 ~{{I2C3.SMBA}}, 7 PC3, 8 GND, 9 3.3V, 10 SWCLK, 11 GND, 12 SWDIO, 13 USART1.TX, 14 USART1.RX, 15 I2C3.SDA, 16 I2C3.SCL, 17 1W(iBTN), 18 GND

## Google_Coral
designator *  value Google_Coral  Reference: U
Edge TPU, 4 TOPS, 2W, 120-LGA; ki_keywords: TPU Coral; ki_fp_filters: Google*Coral*SMT*TPU*Module*; Footprint: Module:Google_Coral_SMT_TPU_Module; Datasheet: https://coral.ai/static/files/Coral-Accelerator-Module-datasheet.pdf; Description_: Edge TPU, 4 TOPS, 2W, 120-LGA
pins: 1 GND, 2 GND, 3 GND, 4 PCIE_TX_N, 5 PCIE_TX_P, 6 GND, 7 PCIE_RX_P, 8 PCIE_RX_N, 9 GND, 10 PCIE_REFCLK_N, 11 PCIE_REFCLK_P, 12 GND, 13 USB2_D_P, 14 USB2_D_N, 15 GND, 16 GND, 17 GND, 18 GND, 19 GND, 20 GND, 21 GND, 22 GND, 23 GND, 24 GND, 25 GND, 26 GND, 27 GND, 28 GND, 29 GND, 30 GND, 31 GND, 32 GND, 33 GND, 34 GND, 35 GND, 36 GND, 37 PGOOD4, 38 GND, 39 GND, 40 GND, 41 GND, 42 GND, 43 GND, 44 GND, 45 GND, 46 GND, 47 GND, 48 GND, 49 RESERVED, 50 RESERVED, 51 GND, 52 RESERVED, 53 PMIC_EN, 54 AON, 55 GND, 56 VIN, 57 VIN, 58 VIN, 59 VIN, 60 VIN, 61 VIN, 62 VIN, 63 VIN, 64 VIN, 65 VIN, 66 VIN, 67 VIN, 68 GND, 69 GND, 70 GND, 71 GND, 72 GND, 73 GND, 74 GND, 75 GND, 76 RST_L, 77 INTR, 78 CLKREQ_L, 79 GND, 80 GND, 81 GND, 82 SD_ALARM, 83 USB_SEL, 84 RESERVED, 85 RESERVED, 86 GND, 87 GND, 88 GND, 89 GND, 90 GND, 91 GND, 92 GND, 93 GND, 94 GND, 95 GND, 96 GND, 97 GND, 98 GND, 99 GND, 100 GND, 101 GND, 102 GND, 103 GND, 104 GND, 105 GND, 106 GND, 107 GND, 108 GND, 109 GND, 110 GND, 111 GND, 112 GND, 113 GND, 114 GND, 115 GND, 116 GND, 117 GND, 118 GND, 119 GND, 120 GND

## Maple_Mini
designator *  value Maple_Mini  Reference: A
Maple Mini Microcontroller Module by LeafLabs; ki_keywords: Maple Mini Microcontroller Module LeafLabs STM32 STM32F103; ki_fp_filters: Maple*Mini*; Footprint: Module:Maple_Mini; Datasheet: http://docs.leaflabs.com/static.leaflabs.com/pub/leaflabs/maple-docs/0.0.12/hardware/maple-mini.html; Description_: Maple Mini Microcontroller Module by LeafLabs
pins: 1 VCC, 2 GND, 3 BUT/D32, 4 SCL1/D15, 5 SDA1/D16, 6 D17, 7 D18, 8 D19, 9 D20, 10 D21, 11 D22, 12 D23, 13 D24, 14 RX1/D25, 15 TX1/D26, 16 D27, 17 MOSI2/D28, 18 MISO2/D29, 19 SCK2/D30, 20 SS2/D31, 21 VIN, 22 D0/SDA2, 23 D1/SCL2, 24 D2, 25 D3, 26 D4/MOSI1, 27 D5/MISO1, 28 D6/SCK1, 29 D7/SS1, 30 D8/RX2, 31 D9/TX2, 32 D10, 33 D11, 34 ~{{RESET}}, 35 D12, 36 D13, 37 D14, 38 VBAT, 39 AV-, 40 AV+

## NUCLEO64-F411RE
designator *  value NUCLEO64-F411RE  Reference: U
Nucleo 64 Development Board with STM32F411RET6 MCU, 128kB RAM, 512KB FLASH; ki_keywords: STM32 Nucleo ST; ki_fp_filters: ST*Morpho*Connector*144*STLink*; Footprint: Module:ST_Morpho_Connector_144_STLink; Datasheet: http://www.st.com/st-web-ui/static/active/en/resource/technical/document/data_brief/DM00105918.pdf; Description_: Nucleo 64 Development Board with STM32F411RET6 MCU, 128kB RAM, 512KB FLASH
pins: 1 PC10, 2 PC11, 3 PC12, 4 PD2, 5 VDD, 6 E5V, 7 ~{{BOOT0}}, 8 GND, 9 NC, 10 NC, 11 NC, 12 IOREF, 13 STLINK_TMS/PA13, 14 ~{{RESET}}, 15 STLINK_TCK/PA14, 16 +3V3, 17 PA15, 18 +5V, 19 GND, 20 GND, 21 PB7, 22 GND, 23 PC13, 24 VIN, 25 PC14, 26 NC, 27 PC15, 28 PA0, 29 PH0, 30 PA1, 31 PH1, 32 PA4, 33 VBAT, 34 PB0, 35 PC2, 36 PC1, 37 PC3, 38 PC0, 39 PC9, 40 PC8, 41 PB8, 42 PC6, 43 PB9, 44 PC5, 45 AVDD, 46 U5V, 47 GND, 48 NC, 49 PA5, 50 PA12, 51 PA6, 52 PA11, 53 PA7, 54 PB12, 55 PB6, 56 NC, 57 PC7, 58 GND, 59 PA9, 60 PB2, 61 PA8, 62 PB1, 63 PB10, 64 PB15, 65 PB4, 66 PB14, 67 PB5, 68 PB13, 69 STLINK_SWO/PB3, 70 AGND, 71 PA10, 72 PC4, 73 STLINK_UART_TX/PA2, 74 NC, 75 STLINK_UART_RX/PA3, 76 NC, 77 GND, 78 GND, 79 GND, 80 GND

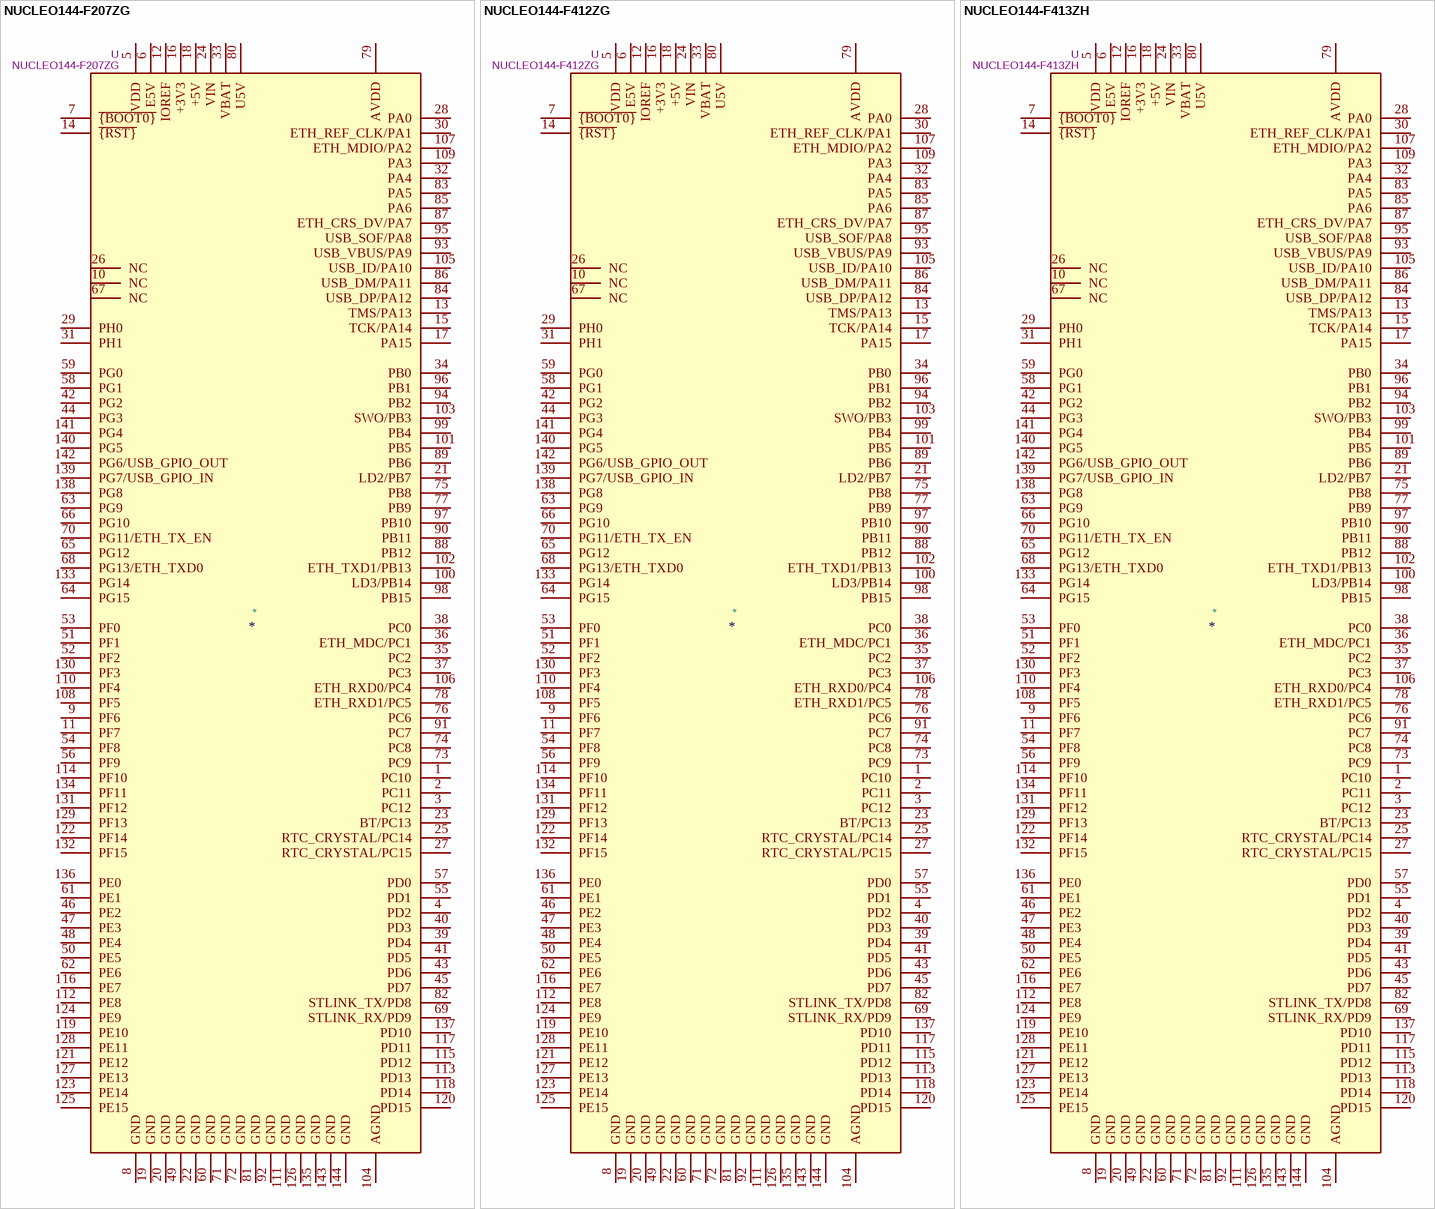
[diagram p3: symbols NUCLEO144-F207ZG to NUCLEO144-F413ZH]

## NUCLEO144-F207ZG
designator *  value NUCLEO144-F207ZG  Reference: U
Nucleo 144 Development Board with STM32F207ZGT6 MCU, 128+4Kb RAM, 1Mb FLASH; ki_keywords: STM32 Nucleo ST; ki_fp_filters: ST*Morpho*Connector*144*STLink*; Footprint: Module:ST_Morpho_Connector_144_STLink; Datasheet: https://www.st.com/resource/en/user_manual/dm00244518-stm32-nucleo144-boards-stmicroelectronics.pdf; Description_: Nucleo 144 Development Board with STM32F207ZGT6 MCU, 128+4Kb RAM, 1Mb FLASH
pins: 1 PC10, 2 PC11, 3 PC12, 4 PD2, 5 VDD, 6 E5V, 7 ~{{BOOT0}}, 8 GND, 9 PF6, 10 NC, 11 PF7, 12 IOREF, 13 TMS/PA13, 14 ~{{RST}}, 15 TCK/PA14, 16 +3V3, 17 PA15, 18 +5V, 19 GND, 20 GND, 21 LD2/PB7, 22 GND, 23 BT/PC13, 24 VIN, 25 RTC_CRYSTAL/PC14, 26 NC, 27 RTC_CRYSTAL/PC15, 28 PA0, 29 PH0, 30 ETH_REF_CLK/PA1, 31 PH1, 32 PA4, 33 VBAT, 34 PB0, 35 PC2, 36 ETH_MDC/PC1, 37 PC3, 38 PC0, 39 PD4, 40 PD3, 41 PD5, 42 PG2, 43 PD6, 44 PG3, 45 PD7, 46 PE2, 47 PE3, 48 PE4, 49 GND, 50 PE5, 51 PF1, 52 PF2, 53 PF0, 54 PF8, 55 PD1, 56 PF9, 57 PD0, 58 PG1, 59 PG0, 60 GND, 61 PE1, 62 PE6, 63 PG9, 64 PG15, 65 PG12, 66 PG10, 67 NC, 68 PG13/ETH_TXD0, 69 STLINK_RX/PD9, 70 PG11/ETH_TX_EN, 71 GND, 72 GND, 73 PC9, 74 PC8, 75 PB8, 76 PC6, 77 PB9, 78 ETH_RXD1/PC5, 79 AVDD, 80 U5V, 81 GND, 82 STLINK_TX/PD8, 83 PA5, 84 USB_DP/PA12, 85 PA6, 86 USB_DM/PA11, 87 ETH_CRS_DV/PA7, 88 PB12, 89 PB6, 90 PB11, 91 PC7, 92 GND, 93 USB_VBUS/PA9, 94 PB2, 95 USB_SOF/PA8, 96 PB1, 97 PB10, 98 PB15, 99 PB4, 100 LD3/PB14, 101 PB5, 102 ETH_TXD1/PB13, 103 SWO/PB3, 104 AGND, 105 USB_ID/PA10, 106 ETH_RXD0/PC4, 107 ETH_MDIO/PA2, 108 PF5, 109 PA3, 110 PF4, 111 GND, 112 PE8, 113 PD13, 114 PF10, 115 PD12, 116 PE7, 117 PD11, 118 PD14, 119 PE10, 120 PD15, 121 PE12, 122 PF14, 123 PE14, 124 PE9, 125 PE15, 126 GND, 127 PE13, 128 PE11, 129 PF13, 130 PF3, 131 PF12, 132 PF15, 133 PG14, 134 PF11, 135 GND, 136 PE0, 137 PD10, 138 PG8, 139 PG7/USB_GPIO_IN, 140 PG5, 141 PG4, 142 PG6/USB_GPIO_OUT, 143 GND, 144 GND

## NUCLEO144-F412ZG
designator *  value NUCLEO144-F412ZG  Reference: U
Nucleo 144 Development Board with STM32F412ZGT6 MCU, 256kB RAM, 1Mb FLASH; ki_keywords: STM32 Nucleo ST; ki_fp_filters: ST*Morpho*Connector*144*STLink*; Footprint: Module:ST_Morpho_Connector_144_STLink; Datasheet: https://www.st.com/resource/en/user_manual/dm00244518-stm32-nucleo144-boards-stmicroelectronics.pdf; Description_: Nucleo 144 Development Board with STM32F412ZGT6 MCU, 256kB RAM, 1Mb FLASH
pins: 1 PC10, 2 PC11, 3 PC12, 4 PD2, 5 VDD, 6 E5V, 7 ~{{BOOT0}}, 8 GND, 9 PF6, 10 NC, 11 PF7, 12 IOREF, 13 TMS/PA13, 14 ~{{RST}}, 15 TCK/PA14, 16 +3V3, 17 PA15, 18 +5V, 19 GND, 20 GND, 21 LD2/PB7, 22 GND, 23 BT/PC13, 24 VIN, 25 RTC_CRYSTAL/PC14, 26 NC, 27 RTC_CRYSTAL/PC15, 28 PA0, 29 PH0, 30 ETH_REF_CLK/PA1, 31 PH1, 32 PA4, 33 VBAT, 34 PB0, 35 PC2, 36 ETH_MDC/PC1, 37 PC3, 38 PC0, 39 PD4, 40 PD3, 41 PD5, 42 PG2, 43 PD6, 44 PG3, 45 PD7, 46 PE2, 47 PE3, 48 PE4, 49 GND, 50 PE5, 51 PF1, 52 PF2, 53 PF0, 54 PF8, 55 PD1, 56 PF9, 57 PD0, 58 PG1, 59 PG0, 60 GND, 61 PE1, 62 PE6, 63 PG9, 64 PG15, 65 PG12, 66 PG10, 67 NC, 68 PG13/ETH_TXD0, 69 STLINK_RX/PD9, 70 PG11/ETH_TX_EN, 71 GND, 72 GND, 73 PC9, 74 PC8, 75 PB8, 76 PC6, 77 PB9, 78 ETH_RXD1/PC5, 79 AVDD, 80 U5V, 81 GND, 82 STLINK_TX/PD8, 83 PA5, 84 USB_DP/PA12, 85 PA6, 86 USB_DM/PA11, 87 ETH_CRS_DV/PA7, 88 PB12, 89 PB6, 90 PB11, 91 PC7, 92 GND, 93 USB_VBUS/PA9, 94 PB2, 95 USB_SOF/PA8, 96 PB1, 97 PB10, 98 PB15, 99 PB4, 100 LD3/PB14, 101 PB5, 102 ETH_TXD1/PB13, 103 SWO/PB3, 104 AGND, 105 USB_ID/PA10, 106 ETH_RXD0/PC4, 107 ETH_MDIO/PA2, 108 PF5, 109 PA3, 110 PF4, 111 GND, 112 PE8, 113 PD13, 114 PF10, 115 PD12, 116 PE7, 117 PD11, 118 PD14, 119 PE10, 120 PD15, 121 PE12, 122 PF14, 123 PE14, 124 PE9, 125 PE15, 126 GND, 127 PE13, 128 PE11, 129 PF13, 130 PF3, 131 PF12, 132 PF15, 133 PG14, 134 PF11, 135 GND, 136 PE0, 137 PD10, 138 PG8, 139 PG7/USB_GPIO_IN, 140 PG5, 141 PG4, 142 PG6/USB_GPIO_OUT, 143 GND, 144 GND

## NUCLEO144-F413ZH
designator *  value NUCLEO144-F413ZH  Reference: U
Nucleo 144 Development Board with STM32F413ZHT6 MCU, 320kB RAM, 1.5Mb FLASH; ki_keywords: STM32 Nucleo ST; ki_fp_filters: ST*Morpho*Connector*144*STLink*; Footprint: Module:ST_Morpho_Connector_144_STLink; Datasheet: https://www.st.com/resource/en/user_manual/dm00244518-stm32-nucleo144-boards-stmicroelectronics.pdf; Description_: Nucleo 144 Development Board with STM32F413ZHT6 MCU, 320kB RAM, 1.5Mb FLASH
pins: 1 PC10, 2 PC11, 3 PC12, 4 PD2, 5 VDD, 6 E5V, 7 ~{{BOOT0}}, 8 GND, 9 PF6, 10 NC, 11 PF7, 12 IOREF, 13 TMS/PA13, 14 ~{{RST}}, 15 TCK/PA14, 16 +3V3, 17 PA15, 18 +5V, 19 GND, 20 GND, 21 LD2/PB7, 22 GND, 23 BT/PC13, 24 VIN, 25 RTC_CRYSTAL/PC14, 26 NC, 27 RTC_CRYSTAL/PC15, 28 PA0, 29 PH0, 30 ETH_REF_CLK/PA1, 31 PH1, 32 PA4, 33 VBAT, 34 PB0, 35 PC2, 36 ETH_MDC/PC1, 37 PC3, 38 PC0, 39 PD4, 40 PD3, 41 PD5, 42 PG2, 43 PD6, 44 PG3, 45 PD7, 46 PE2, 47 PE3, 48 PE4, 49 GND, 50 PE5, 51 PF1, 52 PF2, 53 PF0, 54 PF8, 55 PD1, 56 PF9, 57 PD0, 58 PG1, 59 PG0, 60 GND, 61 PE1, 62 PE6, 63 PG9, 64 PG15, 65 PG12, 66 PG10, 67 NC, 68 PG13/ETH_TXD0, 69 STLINK_RX/PD9, 70 PG11/ETH_TX_EN, 71 GND, 72 GND, 73 PC9, 74 PC8, 75 PB8, 76 PC6, 77 PB9, 78 ETH_RXD1/PC5, 79 AVDD, 80 U5V, 81 GND, 82 STLINK_TX/PD8, 83 PA5, 84 USB_DP/PA12, 85 PA6, 86 USB_DM/PA11, 87 ETH_CRS_DV/PA7, 88 PB12, 89 PB6, 90 PB11, 91 PC7, 92 GND, 93 USB_VBUS/PA9, 94 PB2, 95 USB_SOF/PA8, 96 PB1, 97 PB10, 98 PB15, 99 PB4, 100 LD3/PB14, 101 PB5, 102 ETH_TXD1/PB13, 103 SWO/PB3, 104 AGND, 105 USB_ID/PA10, 106 ETH_RXD0/PC4, 107 ETH_MDIO/PA2, 108 PF5, 109 PA3, 110 PF4, 111 GND, 112 PE8, 113 PD13, 114 PF10, 115 PD12, 116 PE7, 117 PD11, 118 PD14, 119 PE10, 120 PD15, 121 PE12, 122 PF14, 123 PE14, 124 PE9, 125 PE15, 126 GND, 127 PE13, 128 PE11, 129 PF13, 130 PF3, 131 PF12, 132 PF15, 133 PG14, 134 PF11, 135 GND, 136 PE0, 137 PD10, 138 PG8, 139 PG7/USB_GPIO_IN, 140 PG5, 141 PG4, 142 PG6/USB_GPIO_OUT, 143 GND, 144 GND

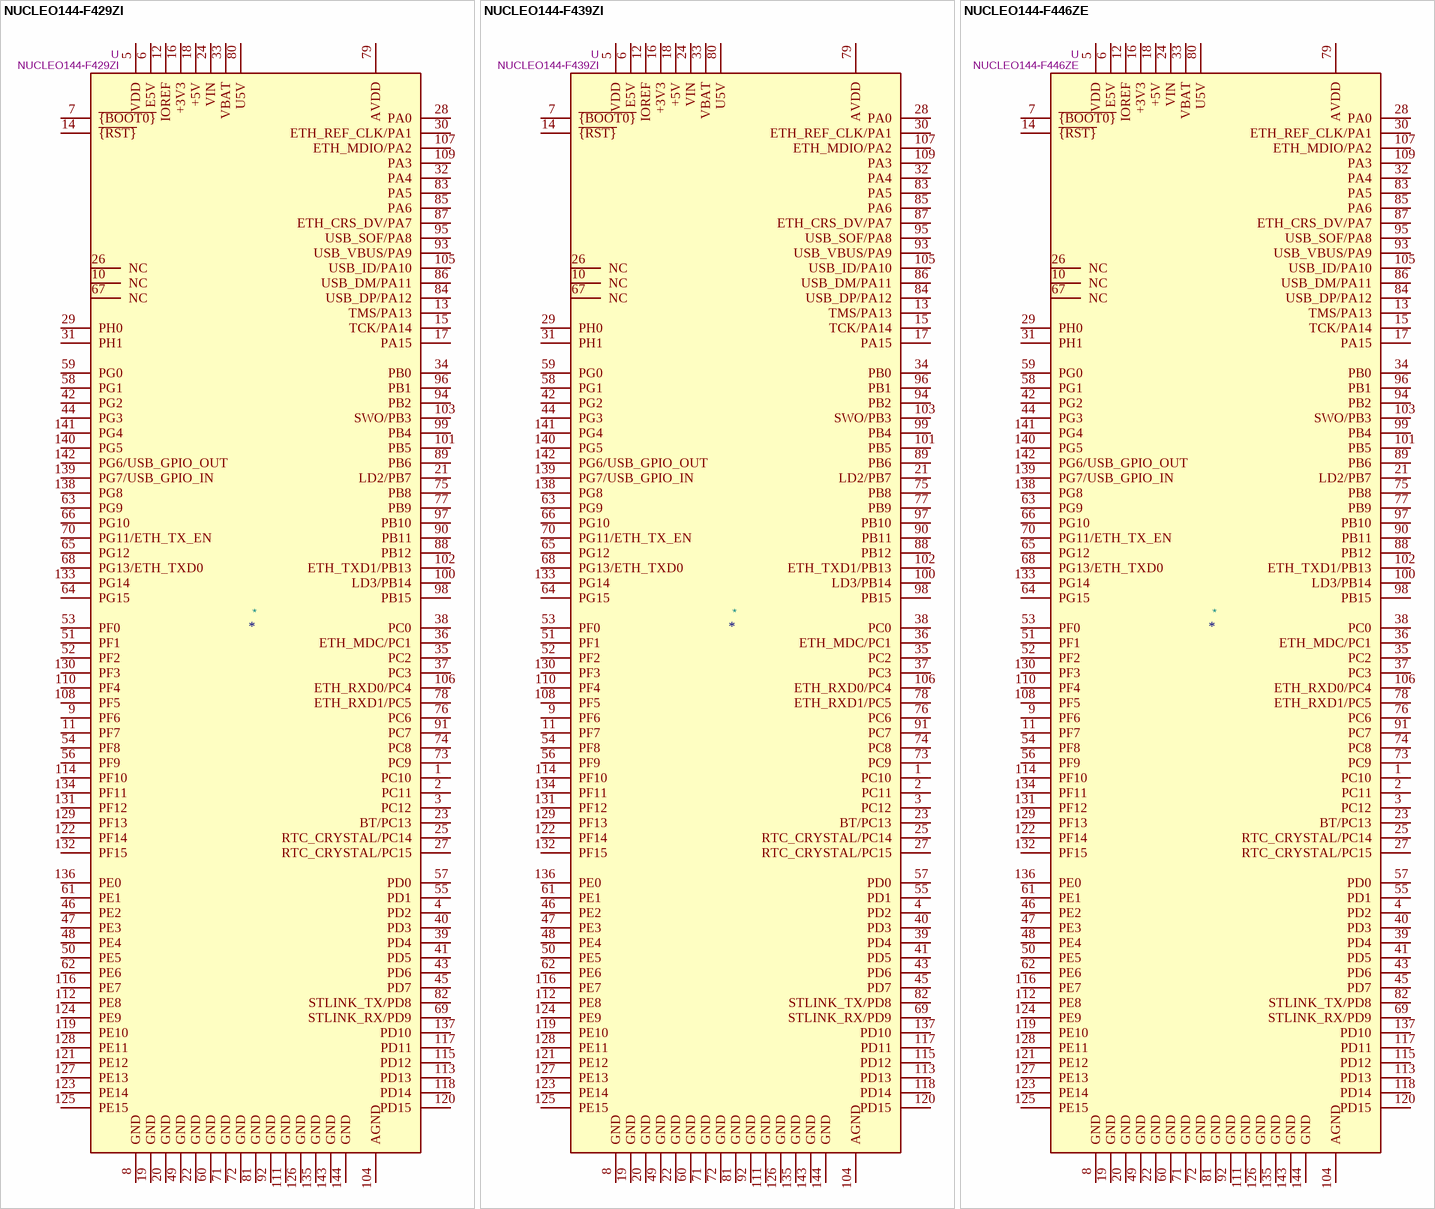
[diagram p4: symbols NUCLEO144-F429ZI to NUCLEO144-F446ZE]

## NUCLEO144-F429ZI
designator *  value NUCLEO144-F429ZI  Reference: U
Nucleo 144 Development Board with STM32F429ZIT6 MCU, 256kB RAM, 1Mb FLASH; ki_keywords: STM32 Nucleo ST; ki_fp_filters: ST*Morpho*Connector*144*STLink*; Footprint: Module:ST_Morpho_Connector_144_STLink; Datasheet: http://www.st.com/content/ccc/resource/technical/document/data_brief/group0/7b/df/1d/e9/64/55/43/8d/DM00247910/files/DM00247910.pdf/jcr:content/translations/en.DM00247910.pdf; Description_: Nucleo 144 Development Board with STM32F429ZIT6 MCU, 256kB RAM, 1Mb FLASH
pins: 1 PC10, 2 PC11, 3 PC12, 4 PD2, 5 VDD, 6 E5V, 7 ~{{BOOT0}}, 8 GND, 9 PF6, 10 NC, 11 PF7, 12 IOREF, 13 TMS/PA13, 14 ~{{RST}}, 15 TCK/PA14, 16 +3V3, 17 PA15, 18 +5V, 19 GND, 20 GND, 21 LD2/PB7, 22 GND, 23 BT/PC13, 24 VIN, 25 RTC_CRYSTAL/PC14, 26 NC, 27 RTC_CRYSTAL/PC15, 28 PA0, 29 PH0, 30 ETH_REF_CLK/PA1, 31 PH1, 32 PA4, 33 VBAT, 34 PB0, 35 PC2, 36 ETH_MDC/PC1, 37 PC3, 38 PC0, 39 PD4, 40 PD3, 41 PD5, 42 PG2, 43 PD6, 44 PG3, 45 PD7, 46 PE2, 47 PE3, 48 PE4, 49 GND, 50 PE5, 51 PF1, 52 PF2, 53 PF0, 54 PF8, 55 PD1, 56 PF9, 57 PD0, 58 PG1, 59 PG0, 60 GND, 61 PE1, 62 PE6, 63 PG9, 64 PG15, 65 PG12, 66 PG10, 67 NC, 68 PG13/ETH_TXD0, 69 STLINK_RX/PD9, 70 PG11/ETH_TX_EN, 71 GND, 72 GND, 73 PC9, 74 PC8, 75 PB8, 76 PC6, 77 PB9, 78 ETH_RXD1/PC5, 79 AVDD, 80 U5V, 81 GND, 82 STLINK_TX/PD8, 83 PA5, 84 USB_DP/PA12, 85 PA6, 86 USB_DM/PA11, 87 ETH_CRS_DV/PA7, 88 PB12, 89 PB6, 90 PB11, 91 PC7, 92 GND, 93 USB_VBUS/PA9, 94 PB2, 95 USB_SOF/PA8, 96 PB1, 97 PB10, 98 PB15, 99 PB4, 100 LD3/PB14, 101 PB5, 102 ETH_TXD1/PB13, 103 SWO/PB3, 104 AGND, 105 USB_ID/PA10, 106 ETH_RXD0/PC4, 107 ETH_MDIO/PA2, 108 PF5, 109 PA3, 110 PF4, 111 GND, 112 PE8, 113 PD13, 114 PF10, 115 PD12, 116 PE7, 117 PD11, 118 PD14, 119 PE10, 120 PD15, 121 PE12, 122 PF14, 123 PE14, 124 PE9, 125 PE15, 126 GND, 127 PE13, 128 PE11, 129 PF13, 130 PF3, 131 PF12, 132 PF15, 133 PG14, 134 PF11, 135 GND, 136 PE0, 137 PD10, 138 PG8, 139 PG7/USB_GPIO_IN, 140 PG5, 141 PG4, 142 PG6/USB_GPIO_OUT, 143 GND, 144 GND

## NUCLEO144-F439ZI
designator *  value NUCLEO144-F439ZI  Reference: U
Nucleo 144 Development Board with STM32F439ZIT6 MCU, 256kB RAM, 2Mb FLASH; ki_keywords: STM32 Nucleo ST; ki_fp_filters: ST*Morpho*Connector*144*STLink*; Footprint: Module:ST_Morpho_Connector_144_STLink; Datasheet: https://www.st.com/resource/en/user_manual/dm00244518-stm32-nucleo144-boards-stmicroelectronics.pdf; Description_: Nucleo 144 Development Board with STM32F439ZIT6 MCU, 256kB RAM, 2Mb FLASH
pins: 1 PC10, 2 PC11, 3 PC12, 4 PD2, 5 VDD, 6 E5V, 7 ~{{BOOT0}}, 8 GND, 9 PF6, 10 NC, 11 PF7, 12 IOREF, 13 TMS/PA13, 14 ~{{RST}}, 15 TCK/PA14, 16 +3V3, 17 PA15, 18 +5V, 19 GND, 20 GND, 21 LD2/PB7, 22 GND, 23 BT/PC13, 24 VIN, 25 RTC_CRYSTAL/PC14, 26 NC, 27 RTC_CRYSTAL/PC15, 28 PA0, 29 PH0, 30 ETH_REF_CLK/PA1, 31 PH1, 32 PA4, 33 VBAT, 34 PB0, 35 PC2, 36 ETH_MDC/PC1, 37 PC3, 38 PC0, 39 PD4, 40 PD3, 41 PD5, 42 PG2, 43 PD6, 44 PG3, 45 PD7, 46 PE2, 47 PE3, 48 PE4, 49 GND, 50 PE5, 51 PF1, 52 PF2, 53 PF0, 54 PF8, 55 PD1, 56 PF9, 57 PD0, 58 PG1, 59 PG0, 60 GND, 61 PE1, 62 PE6, 63 PG9, 64 PG15, 65 PG12, 66 PG10, 67 NC, 68 PG13/ETH_TXD0, 69 STLINK_RX/PD9, 70 PG11/ETH_TX_EN, 71 GND, 72 GND, 73 PC9, 74 PC8, 75 PB8, 76 PC6, 77 PB9, 78 ETH_RXD1/PC5, 79 AVDD, 80 U5V, 81 GND, 82 STLINK_TX/PD8, 83 PA5, 84 USB_DP/PA12, 85 PA6, 86 USB_DM/PA11, 87 ETH_CRS_DV/PA7, 88 PB12, 89 PB6, 90 PB11, 91 PC7, 92 GND, 93 USB_VBUS/PA9, 94 PB2, 95 USB_SOF/PA8, 96 PB1, 97 PB10, 98 PB15, 99 PB4, 100 LD3/PB14, 101 PB5, 102 ETH_TXD1/PB13, 103 SWO/PB3, 104 AGND, 105 USB_ID/PA10, 106 ETH_RXD0/PC4, 107 ETH_MDIO/PA2, 108 PF5, 109 PA3, 110 PF4, 111 GND, 112 PE8, 113 PD13, 114 PF10, 115 PD12, 116 PE7, 117 PD11, 118 PD14, 119 PE10, 120 PD15, 121 PE12, 122 PF14, 123 PE14, 124 PE9, 125 PE15, 126 GND, 127 PE13, 128 PE11, 129 PF13, 130 PF3, 131 PF12, 132 PF15, 133 PG14, 134 PF11, 135 GND, 136 PE0, 137 PD10, 138 PG8, 139 PG7/USB_GPIO_IN, 140 PG5, 141 PG4, 142 PG6/USB_GPIO_OUT, 143 GND, 144 GND

## NUCLEO144-F446ZE
designator *  value NUCLEO144-F446ZE  Reference: U
Nucleo 144 Development Board with STM32F446ZET6 MCU, 128kB RAM, 512Kb FLASH; ki_keywords: STM32 Nucleo ST; ki_fp_filters: ST*Morpho*Connector*144*STLink*; Footprint: Module:ST_Morpho_Connector_144_STLink; Datasheet: https://www.st.com/resource/en/user_manual/dm00244518-stm32-nucleo144-boards-stmicroelectronics.pdf; Description_: Nucleo 144 Development Board with STM32F446ZET6 MCU, 128kB RAM, 512Kb FLASH
pins: 1 PC10, 2 PC11, 3 PC12, 4 PD2, 5 VDD, 6 E5V, 7 ~{{BOOT0}}, 8 GND, 9 PF6, 10 NC, 11 PF7, 12 IOREF, 13 TMS/PA13, 14 ~{{RST}}, 15 TCK/PA14, 16 +3V3, 17 PA15, 18 +5V, 19 GND, 20 GND, 21 LD2/PB7, 22 GND, 23 BT/PC13, 24 VIN, 25 RTC_CRYSTAL/PC14, 26 NC, 27 RTC_CRYSTAL/PC15, 28 PA0, 29 PH0, 30 ETH_REF_CLK/PA1, 31 PH1, 32 PA4, 33 VBAT, 34 PB0, 35 PC2, 36 ETH_MDC/PC1, 37 PC3, 38 PC0, 39 PD4, 40 PD3, 41 PD5, 42 PG2, 43 PD6, 44 PG3, 45 PD7, 46 PE2, 47 PE3, 48 PE4, 49 GND, 50 PE5, 51 PF1, 52 PF2, 53 PF0, 54 PF8, 55 PD1, 56 PF9, 57 PD0, 58 PG1, 59 PG0, 60 GND, 61 PE1, 62 PE6, 63 PG9, 64 PG15, 65 PG12, 66 PG10, 67 NC, 68 PG13/ETH_TXD0, 69 STLINK_RX/PD9, 70 PG11/ETH_TX_EN, 71 GND, 72 GND, 73 PC9, 74 PC8, 75 PB8, 76 PC6, 77 PB9, 78 ETH_RXD1/PC5, 79 AVDD, 80 U5V, 81 GND, 82 STLINK_TX/PD8, 83 PA5, 84 USB_DP/PA12, 85 PA6, 86 USB_DM/PA11, 87 ETH_CRS_DV/PA7, 88 PB12, 89 PB6, 90 PB11, 91 PC7, 92 GND, 93 USB_VBUS/PA9, 94 PB2, 95 USB_SOF/PA8, 96 PB1, 97 PB10, 98 PB15, 99 PB4, 100 LD3/PB14, 101 PB5, 102 ETH_TXD1/PB13, 103 SWO/PB3, 104 AGND, 105 USB_ID/PA10, 106 ETH_RXD0/PC4, 107 ETH_MDIO/PA2, 108 PF5, 109 PA3, 110 PF4, 111 GND, 112 PE8, 113 PD13, 114 PF10, 115 PD12, 116 PE7, 117 PD11, 118 PD14, 119 PE10, 120 PD15, 121 PE12, 122 PF14, 123 PE14, 124 PE9, 125 PE15, 126 GND, 127 PE13, 128 PE11, 129 PF13, 130 PF3, 131 PF12, 132 PF15, 133 PG14, 134 PF11, 135 GND, 136 PE0, 137 PD10, 138 PG8, 139 PG7/USB_GPIO_IN, 140 PG5, 141 PG4, 142 PG6/USB_GPIO_OUT, 143 GND, 144 GND

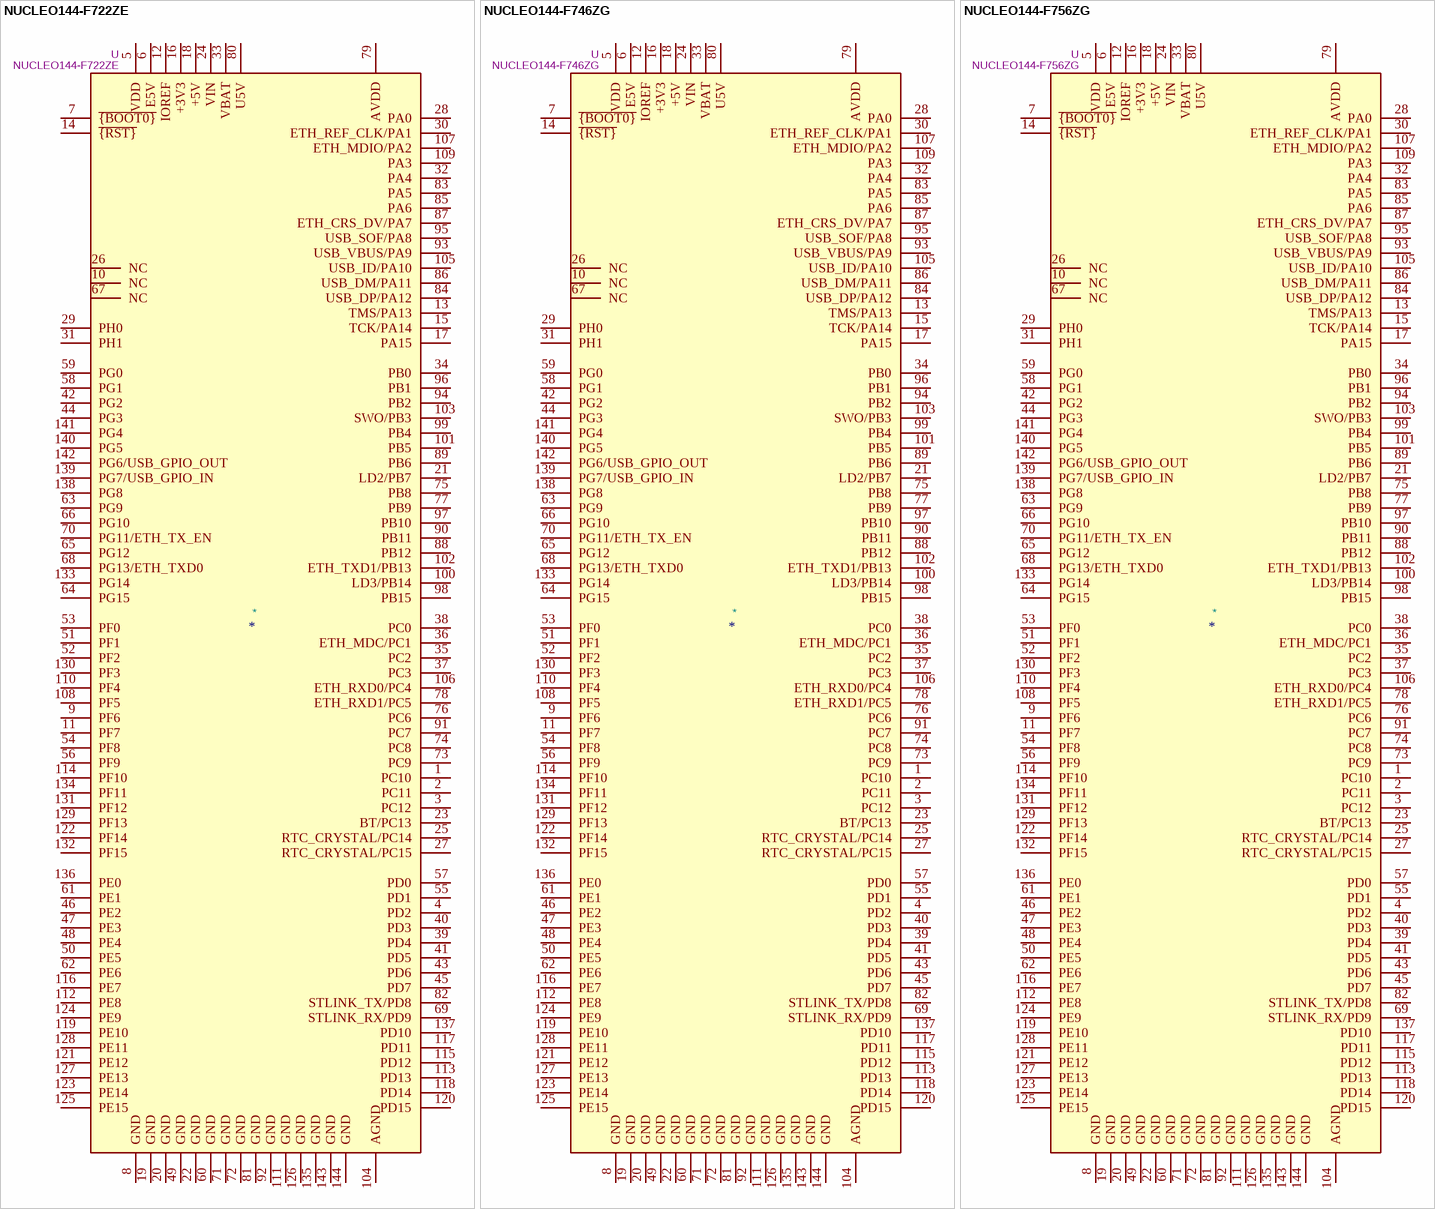
[diagram p5: symbols NUCLEO144-F722ZE to NUCLEO144-F756ZG]

## NUCLEO144-F722ZE
designator *  value NUCLEO144-F722ZE  Reference: U
Nucleo 144 Development Board with STM32F722ZET6 MCU, 256kB RAM, 512Kb FLASH; ki_keywords: STM32 Nucleo ST; ki_fp_filters: ST*Morpho*Connector*144*STLink*; Footprint: Module:ST_Morpho_Connector_144_STLink; Datasheet: https://www.st.com/resource/en/user_manual/dm00244518-stm32-nucleo144-boards-stmicroelectronics.pdf; Description_: Nucleo 144 Development Board with STM32F722ZET6 MCU, 256kB RAM, 512Kb FLASH
pins: 1 PC10, 2 PC11, 3 PC12, 4 PD2, 5 VDD, 6 E5V, 7 ~{{BOOT0}}, 8 GND, 9 PF6, 10 NC, 11 PF7, 12 IOREF, 13 TMS/PA13, 14 ~{{RST}}, 15 TCK/PA14, 16 +3V3, 17 PA15, 18 +5V, 19 GND, 20 GND, 21 LD2/PB7, 22 GND, 23 BT/PC13, 24 VIN, 25 RTC_CRYSTAL/PC14, 26 NC, 27 RTC_CRYSTAL/PC15, 28 PA0, 29 PH0, 30 ETH_REF_CLK/PA1, 31 PH1, 32 PA4, 33 VBAT, 34 PB0, 35 PC2, 36 ETH_MDC/PC1, 37 PC3, 38 PC0, 39 PD4, 40 PD3, 41 PD5, 42 PG2, 43 PD6, 44 PG3, 45 PD7, 46 PE2, 47 PE3, 48 PE4, 49 GND, 50 PE5, 51 PF1, 52 PF2, 53 PF0, 54 PF8, 55 PD1, 56 PF9, 57 PD0, 58 PG1, 59 PG0, 60 GND, 61 PE1, 62 PE6, 63 PG9, 64 PG15, 65 PG12, 66 PG10, 67 NC, 68 PG13/ETH_TXD0, 69 STLINK_RX/PD9, 70 PG11/ETH_TX_EN, 71 GND, 72 GND, 73 PC9, 74 PC8, 75 PB8, 76 PC6, 77 PB9, 78 ETH_RXD1/PC5, 79 AVDD, 80 U5V, 81 GND, 82 STLINK_TX/PD8, 83 PA5, 84 USB_DP/PA12, 85 PA6, 86 USB_DM/PA11, 87 ETH_CRS_DV/PA7, 88 PB12, 89 PB6, 90 PB11, 91 PC7, 92 GND, 93 USB_VBUS/PA9, 94 PB2, 95 USB_SOF/PA8, 96 PB1, 97 PB10, 98 PB15, 99 PB4, 100 LD3/PB14, 101 PB5, 102 ETH_TXD1/PB13, 103 SWO/PB3, 104 AGND, 105 USB_ID/PA10, 106 ETH_RXD0/PC4, 107 ETH_MDIO/PA2, 108 PF5, 109 PA3, 110 PF4, 111 GND, 112 PE8, 113 PD13, 114 PF10, 115 PD12, 116 PE7, 117 PD11, 118 PD14, 119 PE10, 120 PD15, 121 PE12, 122 PF14, 123 PE14, 124 PE9, 125 PE15, 126 GND, 127 PE13, 128 PE11, 129 PF13, 130 PF3, 131 PF12, 132 PF15, 133 PG14, 134 PF11, 135 GND, 136 PE0, 137 PD10, 138 PG8, 139 PG7/USB_GPIO_IN, 140 PG5, 141 PG4, 142 PG6/USB_GPIO_OUT, 143 GND, 144 GND

## NUCLEO144-F746ZG
designator *  value NUCLEO144-F746ZG  Reference: U
Nucleo 144 Development Board with STM32F746ZG MCU, 256kB RAM, 1Mb FLASH; ki_keywords: STM32 Nucleo ST; ki_fp_filters: ST*Morpho*Connector*144*STLink*; Footprint: Module:ST_Morpho_Connector_144_STLink; Datasheet: https://www.st.com/resource/en/user_manual/dm00244518-stm32-nucleo144-boards-stmicroelectronics.pdf; Description_: Nucleo 144 Development Board with STM32F746ZG MCU, 256kB RAM, 1Mb FLASH
pins: 1 PC10, 2 PC11, 3 PC12, 4 PD2, 5 VDD, 6 E5V, 7 ~{{BOOT0}}, 8 GND, 9 PF6, 10 NC, 11 PF7, 12 IOREF, 13 TMS/PA13, 14 ~{{RST}}, 15 TCK/PA14, 16 +3V3, 17 PA15, 18 +5V, 19 GND, 20 GND, 21 LD2/PB7, 22 GND, 23 BT/PC13, 24 VIN, 25 RTC_CRYSTAL/PC14, 26 NC, 27 RTC_CRYSTAL/PC15, 28 PA0, 29 PH0, 30 ETH_REF_CLK/PA1, 31 PH1, 32 PA4, 33 VBAT, 34 PB0, 35 PC2, 36 ETH_MDC/PC1, 37 PC3, 38 PC0, 39 PD4, 40 PD3, 41 PD5, 42 PG2, 43 PD6, 44 PG3, 45 PD7, 46 PE2, 47 PE3, 48 PE4, 49 GND, 50 PE5, 51 PF1, 52 PF2, 53 PF0, 54 PF8, 55 PD1, 56 PF9, 57 PD0, 58 PG1, 59 PG0, 60 GND, 61 PE1, 62 PE6, 63 PG9, 64 PG15, 65 PG12, 66 PG10, 67 NC, 68 PG13/ETH_TXD0, 69 STLINK_RX/PD9, 70 PG11/ETH_TX_EN, 71 GND, 72 GND, 73 PC9, 74 PC8, 75 PB8, 76 PC6, 77 PB9, 78 ETH_RXD1/PC5, 79 AVDD, 80 U5V, 81 GND, 82 STLINK_TX/PD8, 83 PA5, 84 USB_DP/PA12, 85 PA6, 86 USB_DM/PA11, 87 ETH_CRS_DV/PA7, 88 PB12, 89 PB6, 90 PB11, 91 PC7, 92 GND, 93 USB_VBUS/PA9, 94 PB2, 95 USB_SOF/PA8, 96 PB1, 97 PB10, 98 PB15, 99 PB4, 100 LD3/PB14, 101 PB5, 102 ETH_TXD1/PB13, 103 SWO/PB3, 104 AGND, 105 USB_ID/PA10, 106 ETH_RXD0/PC4, 107 ETH_MDIO/PA2, 108 PF5, 109 PA3, 110 PF4, 111 GND, 112 PE8, 113 PD13, 114 PF10, 115 PD12, 116 PE7, 117 PD11, 118 PD14, 119 PE10, 120 PD15, 121 PE12, 122 PF14, 123 PE14, 124 PE9, 125 PE15, 126 GND, 127 PE13, 128 PE11, 129 PF13, 130 PF3, 131 PF12, 132 PF15, 133 PG14, 134 PF11, 135 GND, 136 PE0, 137 PD10, 138 PG8, 139 PG7/USB_GPIO_IN, 140 PG5, 141 PG4, 142 PG6/USB_GPIO_OUT, 143 GND, 144 GND

## NUCLEO144-F756ZG
designator *  value NUCLEO144-F756ZG  Reference: U
Nucleo 144 Development Board with STM32F756ZGT6 MCU, 320kB RAM, 1Mb FLASH; ki_keywords: STM32 Nucleo ST; ki_fp_filters: ST*Morpho*Connector*144*STLink*; Footprint: Module:ST_Morpho_Connector_144_STLink; Datasheet: https://www.st.com/resource/en/user_manual/dm00244518-stm32-nucleo144-boards-stmicroelectronics.pdf; Description_: Nucleo 144 Development Board with STM32F756ZGT6 MCU, 320kB RAM, 1Mb FLASH
pins: 1 PC10, 2 PC11, 3 PC12, 4 PD2, 5 VDD, 6 E5V, 7 ~{{BOOT0}}, 8 GND, 9 PF6, 10 NC, 11 PF7, 12 IOREF, 13 TMS/PA13, 14 ~{{RST}}, 15 TCK/PA14, 16 +3V3, 17 PA15, 18 +5V, 19 GND, 20 GND, 21 LD2/PB7, 22 GND, 23 BT/PC13, 24 VIN, 25 RTC_CRYSTAL/PC14, 26 NC, 27 RTC_CRYSTAL/PC15, 28 PA0, 29 PH0, 30 ETH_REF_CLK/PA1, 31 PH1, 32 PA4, 33 VBAT, 34 PB0, 35 PC2, 36 ETH_MDC/PC1, 37 PC3, 38 PC0, 39 PD4, 40 PD3, 41 PD5, 42 PG2, 43 PD6, 44 PG3, 45 PD7, 46 PE2, 47 PE3, 48 PE4, 49 GND, 50 PE5, 51 PF1, 52 PF2, 53 PF0, 54 PF8, 55 PD1, 56 PF9, 57 PD0, 58 PG1, 59 PG0, 60 GND, 61 PE1, 62 PE6, 63 PG9, 64 PG15, 65 PG12, 66 PG10, 67 NC, 68 PG13/ETH_TXD0, 69 STLINK_RX/PD9, 70 PG11/ETH_TX_EN, 71 GND, 72 GND, 73 PC9, 74 PC8, 75 PB8, 76 PC6, 77 PB9, 78 ETH_RXD1/PC5, 79 AVDD, 80 U5V, 81 GND, 82 STLINK_TX/PD8, 83 PA5, 84 USB_DP/PA12, 85 PA6, 86 USB_DM/PA11, 87 ETH_CRS_DV/PA7, 88 PB12, 89 PB6, 90 PB11, 91 PC7, 92 GND, 93 USB_VBUS/PA9, 94 PB2, 95 USB_SOF/PA8, 96 PB1, 97 PB10, 98 PB15, 99 PB4, 100 LD3/PB14, 101 PB5, 102 ETH_TXD1/PB13, 103 SWO/PB3, 104 AGND, 105 USB_ID/PA10, 106 ETH_RXD0/PC4, 107 ETH_MDIO/PA2, 108 PF5, 109 PA3, 110 PF4, 111 GND, 112 PE8, 113 PD13, 114 PF10, 115 PD12, 116 PE7, 117 PD11, 118 PD14, 119 PE10, 120 PD15, 121 PE12, 122 PF14, 123 PE14, 124 PE9, 125 PE15, 126 GND, 127 PE13, 128 PE11, 129 PF13, 130 PF3, 131 PF12, 132 PF15, 133 PG14, 134 PF11, 135 GND, 136 PE0, 137 PD10, 138 PG8, 139 PG7/USB_GPIO_IN, 140 PG5, 141 PG4, 142 PG6/USB_GPIO_OUT, 143 GND, 144 GND

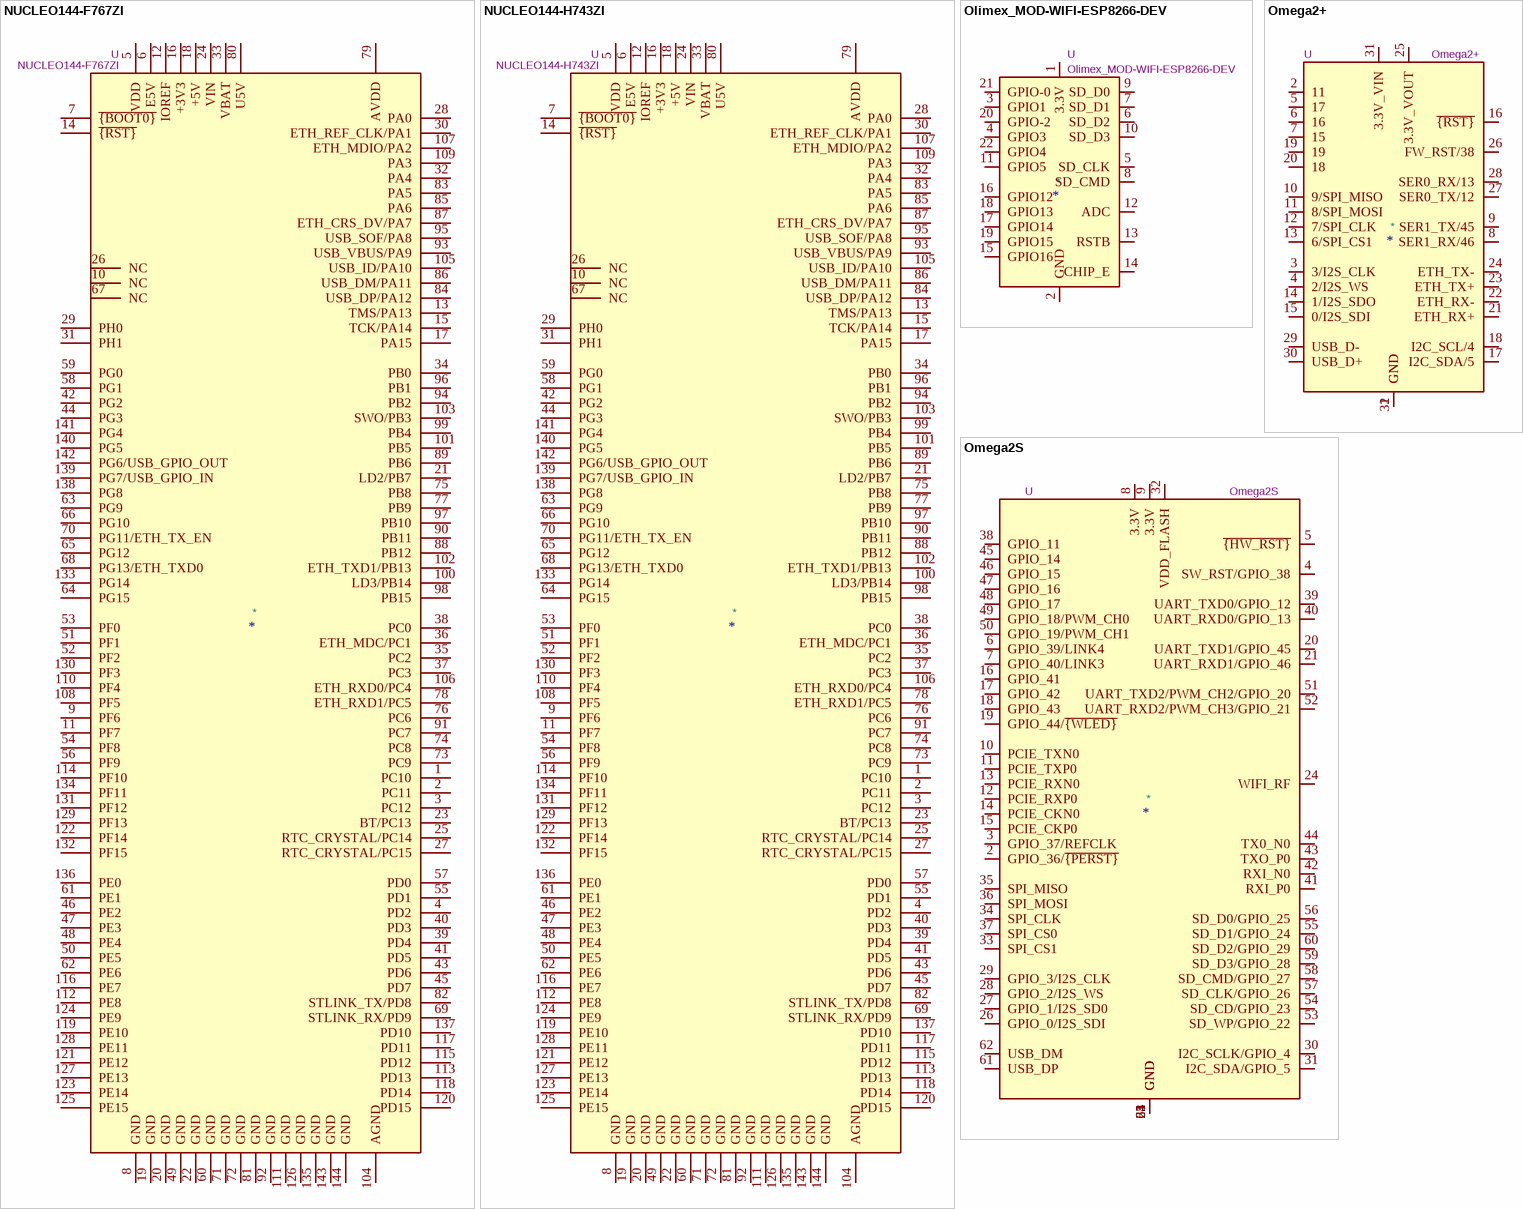
[diagram p6: symbols NUCLEO144-F767ZI to Omega2S]

## NUCLEO144-F767ZI
designator *  value NUCLEO144-F767ZI  Reference: U
Nucleo 144 Development Board with STM32F767ZIT6 MCU, 512kB RAM, 2Mb FLASH; ki_keywords: STM32 Nucleo ST; ki_fp_filters: ST*Morpho*Connector*144*STLink*; Footprint: Module:ST_Morpho_Connector_144_STLink; Datasheet: https://www.st.com/resource/en/user_manual/dm00244518-stm32-nucleo144-boards-stmicroelectronics.pdf; Description_: Nucleo 144 Development Board with STM32F767ZIT6 MCU, 512kB RAM, 2Mb FLASH
pins: 1 PC10, 2 PC11, 3 PC12, 4 PD2, 5 VDD, 6 E5V, 7 ~{{BOOT0}}, 8 GND, 9 PF6, 10 NC, 11 PF7, 12 IOREF, 13 TMS/PA13, 14 ~{{RST}}, 15 TCK/PA14, 16 +3V3, 17 PA15, 18 +5V, 19 GND, 20 GND, 21 LD2/PB7, 22 GND, 23 BT/PC13, 24 VIN, 25 RTC_CRYSTAL/PC14, 26 NC, 27 RTC_CRYSTAL/PC15, 28 PA0, 29 PH0, 30 ETH_REF_CLK/PA1, 31 PH1, 32 PA4, 33 VBAT, 34 PB0, 35 PC2, 36 ETH_MDC/PC1, 37 PC3, 38 PC0, 39 PD4, 40 PD3, 41 PD5, 42 PG2, 43 PD6, 44 PG3, 45 PD7, 46 PE2, 47 PE3, 48 PE4, 49 GND, 50 PE5, 51 PF1, 52 PF2, 53 PF0, 54 PF8, 55 PD1, 56 PF9, 57 PD0, 58 PG1, 59 PG0, 60 GND, 61 PE1, 62 PE6, 63 PG9, 64 PG15, 65 PG12, 66 PG10, 67 NC, 68 PG13/ETH_TXD0, 69 STLINK_RX/PD9, 70 PG11/ETH_TX_EN, 71 GND, 72 GND, 73 PC9, 74 PC8, 75 PB8, 76 PC6, 77 PB9, 78 ETH_RXD1/PC5, 79 AVDD, 80 U5V, 81 GND, 82 STLINK_TX/PD8, 83 PA5, 84 USB_DP/PA12, 85 PA6, 86 USB_DM/PA11, 87 ETH_CRS_DV/PA7, 88 PB12, 89 PB6, 90 PB11, 91 PC7, 92 GND, 93 USB_VBUS/PA9, 94 PB2, 95 USB_SOF/PA8, 96 PB1, 97 PB10, 98 PB15, 99 PB4, 100 LD3/PB14, 101 PB5, 102 ETH_TXD1/PB13, 103 SWO/PB3, 104 AGND, 105 USB_ID/PA10, 106 ETH_RXD0/PC4, 107 ETH_MDIO/PA2, 108 PF5, 109 PA3, 110 PF4, 111 GND, 112 PE8, 113 PD13, 114 PF10, 115 PD12, 116 PE7, 117 PD11, 118 PD14, 119 PE10, 120 PD15, 121 PE12, 122 PF14, 123 PE14, 124 PE9, 125 PE15, 126 GND, 127 PE13, 128 PE11, 129 PF13, 130 PF3, 131 PF12, 132 PF15, 133 PG14, 134 PF11, 135 GND, 136 PE0, 137 PD10, 138 PG8, 139 PG7/USB_GPIO_IN, 140 PG5, 141 PG4, 142 PG6/USB_GPIO_OUT, 143 GND, 144 GND

## NUCLEO144-H743ZI
designator *  value NUCLEO144-H743ZI  Reference: U
Nucleo 144 Development Board with STM32H743ZIT6 MCU, 1024kB RAM, 2Mb FLASH; ki_keywords: STM32 Nucleo ST; ki_fp_filters: ST*Morpho*Connector*144*STLink*; Footprint: Module:ST_Morpho_Connector_144_STLink; Datasheet: https://www.st.com/resource/en/user_manual/dm00244518-stm32-nucleo144-boards-stmicroelectronics.pdf; Description_: Nucleo 144 Development Board with STM32H743ZIT6 MCU, 1024kB RAM, 2Mb FLASH
pins: 1 PC10, 2 PC11, 3 PC12, 4 PD2, 5 VDD, 6 E5V, 7 ~{{BOOT0}}, 8 GND, 9 PF6, 10 NC, 11 PF7, 12 IOREF, 13 TMS/PA13, 14 ~{{RST}}, 15 TCK/PA14, 16 +3V3, 17 PA15, 18 +5V, 19 GND, 20 GND, 21 LD2/PB7, 22 GND, 23 BT/PC13, 24 VIN, 25 RTC_CRYSTAL/PC14, 26 NC, 27 RTC_CRYSTAL/PC15, 28 PA0, 29 PH0, 30 ETH_REF_CLK/PA1, 31 PH1, 32 PA4, 33 VBAT, 34 PB0, 35 PC2, 36 ETH_MDC/PC1, 37 PC3, 38 PC0, 39 PD4, 40 PD3, 41 PD5, 42 PG2, 43 PD6, 44 PG3, 45 PD7, 46 PE2, 47 PE3, 48 PE4, 49 GND, 50 PE5, 51 PF1, 52 PF2, 53 PF0, 54 PF8, 55 PD1, 56 PF9, 57 PD0, 58 PG1, 59 PG0, 60 GND, 61 PE1, 62 PE6, 63 PG9, 64 PG15, 65 PG12, 66 PG10, 67 NC, 68 PG13/ETH_TXD0, 69 STLINK_RX/PD9, 70 PG11/ETH_TX_EN, 71 GND, 72 GND, 73 PC9, 74 PC8, 75 PB8, 76 PC6, 77 PB9, 78 ETH_RXD1/PC5, 79 AVDD, 80 U5V, 81 GND, 82 STLINK_TX/PD8, 83 PA5, 84 USB_DP/PA12, 85 PA6, 86 USB_DM/PA11, 87 ETH_CRS_DV/PA7, 88 PB12, 89 PB6, 90 PB11, 91 PC7, 92 GND, 93 USB_VBUS/PA9, 94 PB2, 95 USB_SOF/PA8, 96 PB1, 97 PB10, 98 PB15, 99 PB4, 100 LD3/PB14, 101 PB5, 102 ETH_TXD1/PB13, 103 SWO/PB3, 104 AGND, 105 USB_ID/PA10, 106 ETH_RXD0/PC4, 107 ETH_MDIO/PA2, 108 PF5, 109 PA3, 110 PF4, 111 GND, 112 PE8, 113 PD13, 114 PF10, 115 PD12, 116 PE7, 117 PD11, 118 PD14, 119 PE10, 120 PD15, 121 PE12, 122 PF14, 123 PE14, 124 PE9, 125 PE15, 126 GND, 127 PE13, 128 PE11, 129 PF13, 130 PF3, 131 PF12, 132 PF15, 133 PG14, 134 PF11, 135 GND, 136 PE0, 137 PD10, 138 PG8, 139 PG7/USB_GPIO_IN, 140 PG5, 141 PG4, 142 PG6/USB_GPIO_OUT, 143 GND, 144 GND

## Olimex_MOD-WIFI-ESP8266-DEV
designator *  value Olimex_MOD-WIFI-ESP8266-DEV  Reference: U
ESP8266 development board; ki_fp_filters: *MOD?WIFI?ESP8266?DEV*; Footprint: Module:Olimex_MOD-WIFI-ESP8266-DEV; Datasheet: https://raw.githubusercontent.com/OLIMEX/ESP8266/master/HARDWARE/MOD-WIFI-ESP8266-DEV/MOD-WiFi-ESP8266-DEV%20revision%20B2/MOD-WiFi-ESP8266-DEV_Rev_B2.pdf; Description_: ESP8266 development board; ki_keywords: ESP8266
pins: 1 3.3V, 2 GND, 3 GPIO1, 4 GPIO3, 5 SD_CLK, 6 SD_D2, 7 SD_D1, 8 SD_CMD, 9 SD_D0, 10 SD_D3, 11 GPIO5, 12 ADC, 13 RSTB, 14 CHIP_E, 15 GPIO16, 16 GPIO12, 17 GPIO14, 18 GPIO13, 19 GPIO15, 20 GPIO-2, 21 GPIO-0, 22 GPIO4

## Omega2+
designator *  value Omega2+  Reference: U
Iot Computer Module by Onion; ki_keywords: onion omega module; ki_fp_filters: Onion*Omega2+*; Footprint: Module:Onion_Omega2+; Datasheet: https://docs.onion.io/omega2-docs/omega2p.html; Description_: Iot Computer Module by Onion
pins: 1 GND, 2 11, 3 3/I2S_CLK, 4 2/I2S_WS, 5 17, 6 16, 7 15, 8 SER1_RX/46, 9 SER1_TX/45, 10 9/SPI_MISO, 11 8/SPI_MOSI, 12 7/SPI_CLK, 13 6/SPI_CS1, 14 1/I2S_SDO, 15 0/I2S_SDI, 16 ~{{RST}}, 17 I2C_SDA/5, 18 I2C_SCL/4, 19, 20 18, 21 ETH_RX+, 22 ETH_RX-, 23 ETH_TX+, 24 ETH_TX-, 25 3.3V_VOUT, 26 FW_RST/38, 27 SER0_TX/12, 28 SER0_RX/13, 29 USB_D-, 30 USB_D+, 31 3.3V_VIN, 32 GND

## Omega2S
designator *  value Omega2S  Reference: U
Iot Computer Module by Onion, 64MB RAM, 16MB FLASH; ki_keywords: onion omega module; ki_fp_filters: Onion*Omega2S*; Footprint: Module:Onion_Omega2S; Datasheet: https://github.com/OnionIoT/Omega2/raw/master/Documents/Omega2S%20Datasheet.pdf; Description_: Iot Computer Module by Onion, 64MB RAM, 16MB FLASH
pins: 1 GND, 2 GPIO_36/~{{PERST}}, 3 GPIO_37/REFCLK, 4 SW_RST/GPIO_38, 5 ~{{HW_RST}}, 6 GPIO_39/LINK4, 7 GPIO_40/LINK3, 8 3.3V, 9 3.3V, 10 PCIE_TXN0, 11 PCIE_TXP0, 12 PCIE_RXP0, 13 PCIE_RXN0, 14 PCIE_CKN0, 15 PCIE_CKP0, 16 GPIO_41, 17 GPIO_42, 18 GPIO_43, 19 GPIO_44/~{{WLED}}, 20 UART_TXD1/GPIO_45, 21 UART_RXD1/GPIO_46, 22 GND, 23 GND, 24 WIFI_RF, 25 GND, 26 GPIO_0/I2S_SDI, 27 GPIO_1/I2S_SD0, 28 GPIO_2/I2S_WS, 29 GPIO_3/I2S_CLK, 30 I2C_SCLK/GPIO_4, 31 I2C_SDA/GPIO_5, 32 VDD_FLASH, 33 SPI_CS1, 34 SPI_CLK, 35 SPI_MISO, 36 SPI_MOSI, 37 SPI_CS0, 38 GPIO_11, 39 UART_TXD0/GPIO_12, 40 UART_RXD0/GPIO_13, 41 RXI_P0, 42 RXI_N0, 43 TXO_P0, 44 TX0_N0, 45 GPIO_14, 46 GPIO_15, 47 GPIO_16, 48 GPIO_17, 49 GPIO_18/PWM_CH0, 50 GPIO_19/PWM_CH1, 51 UART_TXD2/PWM_CH2/GPIO_20, 52 UART_RXD2/PWM_CH3/GPIO_21, 53 SD_WP/GPIO_22, 54 SD_CD/GPIO_23, 55 SD_D1/GPIO_24, 56 SD_D0/GPIO_25, 57 SD_CLK/GPIO_26, 58 SD_CMD/GPIO_27, 59 SD_D3/GPIO_28, 60 SD_D2/GPIO_29, 61 USB_DP, 62 USB_DM, 63 GND, 64 GND

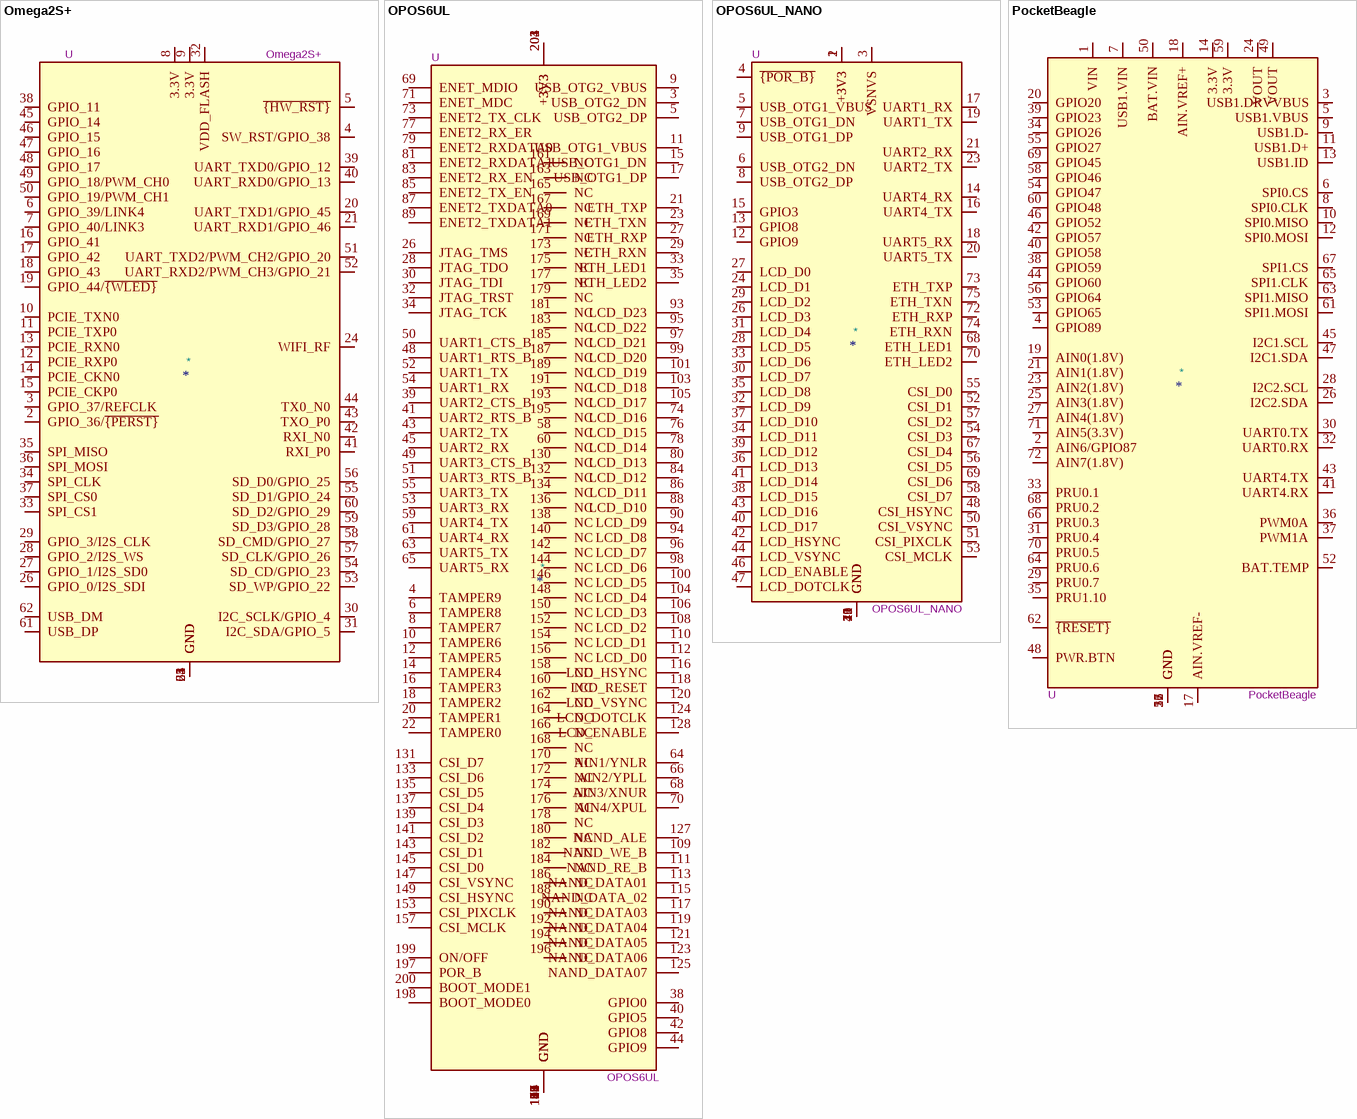
[diagram p7: symbols Omega2S+ to PocketBeagle]